# Altium schematic symbol library CHXXX.schlib: 332 symbols (part 1 of 5)
Pins are listed as number, name and electrical type; pins without a type are passive.

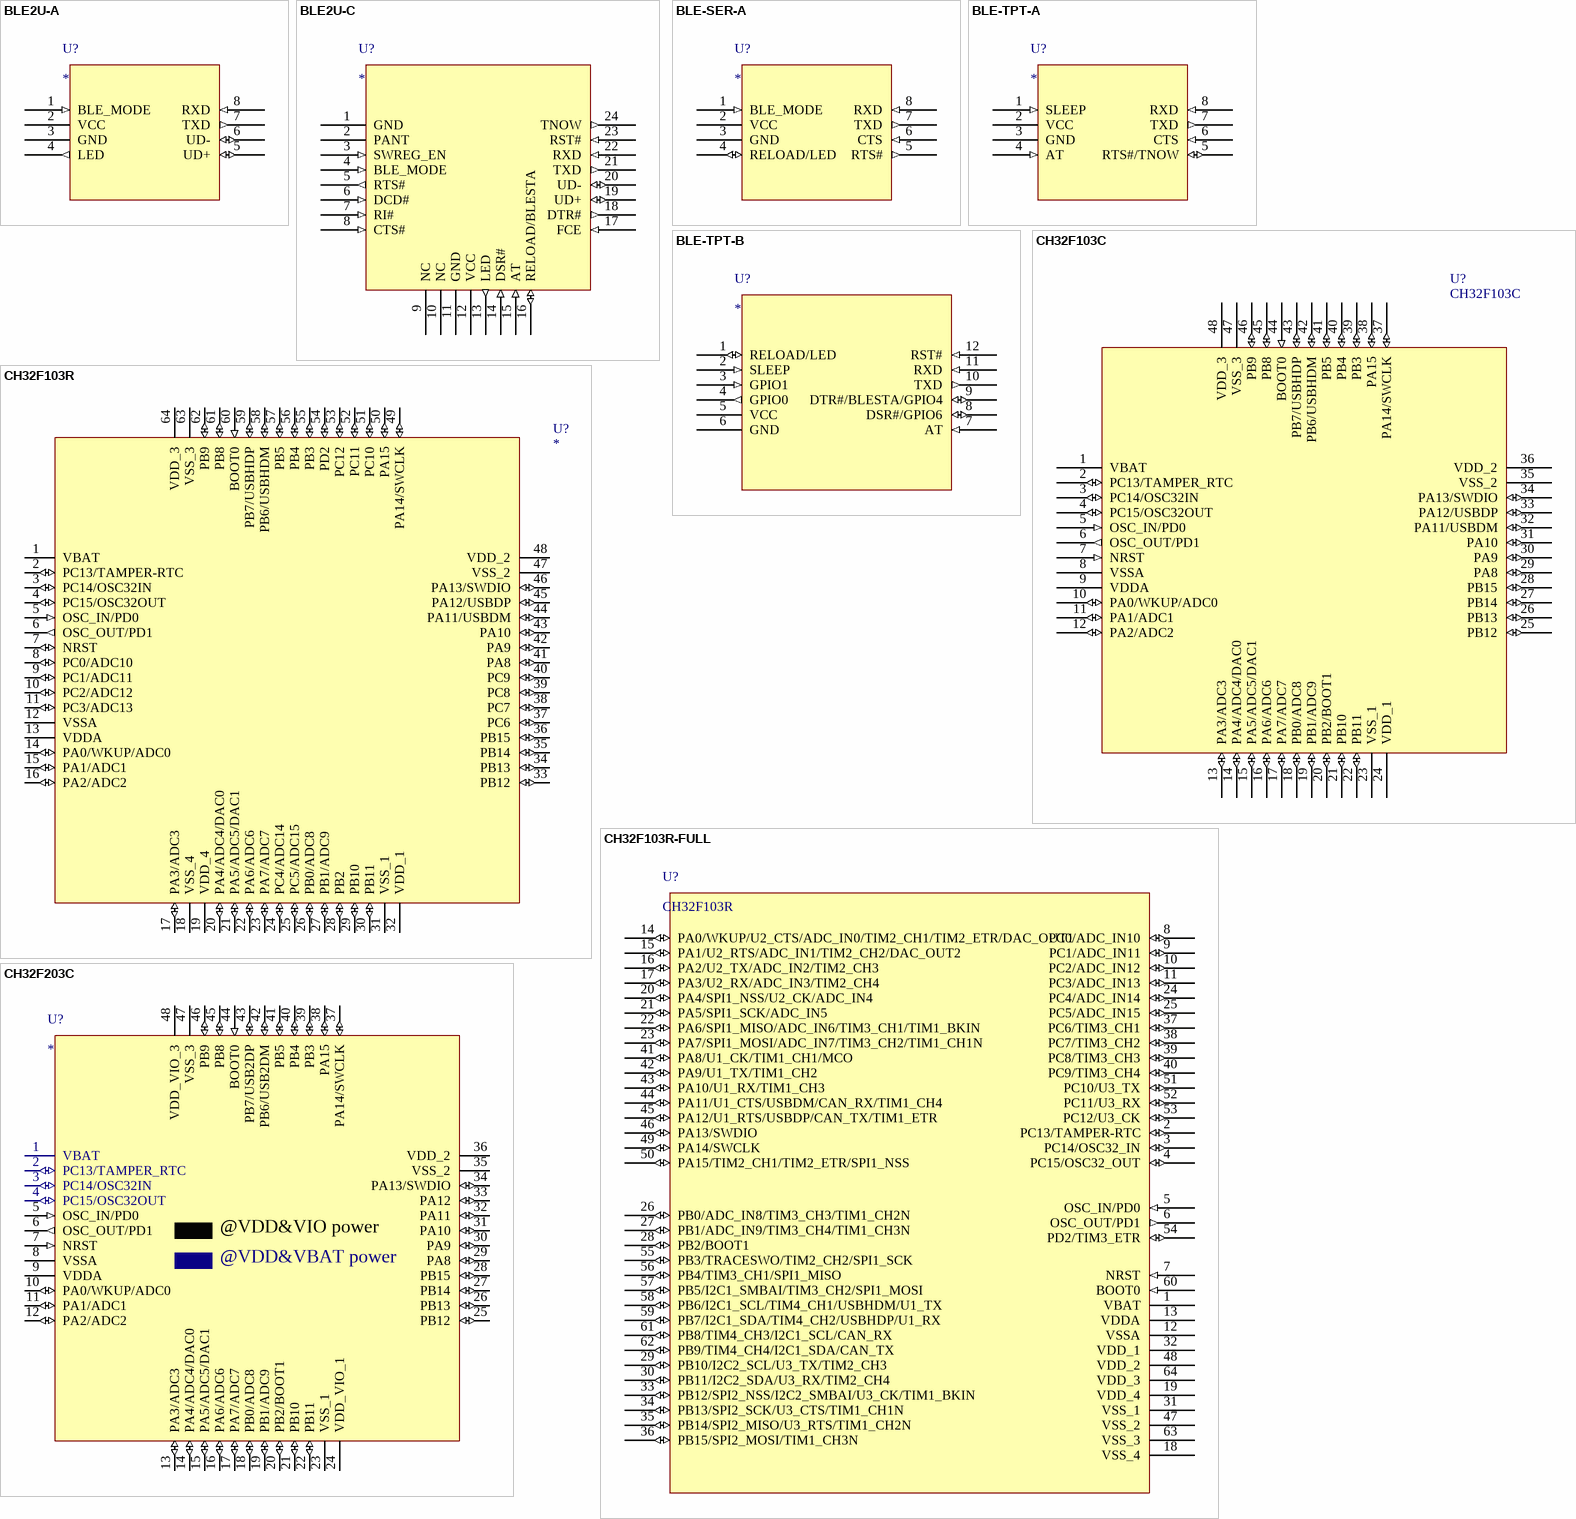
[diagram p0: symbols BLE2U-A to CH32F203C]

## BLE2U-A
designator U?
BLE/UART/USB transparent transmission module, 8 pins
footprint BLEMOD-R1-1v1-8PIN
pins: 1 BLE_MODE (in), 2 VCC (power), 3 GND (power), 4 LED (out), 5 UD+ (io), 6 UD- (io), 7 TXD (out), 8 RXD (in)

## BLE2U-C
designator U?
BLE/UART/USB transparent transmission module, 24 pins
footprint BLEMOD-R2-1v0-24PIN
pins: 1 GND (power), 2 PANT, 3 SWREG_EN (in), 4 BLE_MODE (in), 5 RTS# (out), 6 DCD# (in), 7 RI# (in), 8 CTS# (in), 9 NC, 10 NC, 11 GND (power), 12 VCC (power), 13 LED (out), 14 DSR# (in), 15 AT (in), 16 RELOAD/BLESTA   (io), 17 FCE (in), 18 DTR# (out), 19 UD+ (io), 20 UD- (io), 21 TXD (out), 22 RXD (in), 23 RST# (in), 24 TNOW (out)

## BLE-SER-A
designator U?
BLE to UART / TTL Serial module, 8 pins
footprint BLEMOD-R1-1v1-8PIN
pins: 1 BLE_MODE (in), 2 VCC (power), 3 GND (power), 4 RELOAD/LED (io), 5 RTS# (out), 6 CTS (in), 7 TXD (out), 8 RXD (in)

## BLE-TPT-A
designator U?
BLE/UART transparent transmission module, 8 pins
footprint BLEMOD-R1-1v1-8PIN
pins: 1 SLEEP (in), 2 VCC (power), 3 GND (power), 4 AT (in), 5 RTS#/TNOW (io), 6 CTS (in), 7 TXD (out), 8 RXD (in)

## BLE-TPT-B
designator U?
BLE/UART transparent transmission module, 12 pins
footprint BLEMOD-R0-1v0-12PIN
pins: 1 RELOAD/LED (io), 2 SLEEP (in), 3 GPIO1 (in), 4 GPIO0 (out), 5 VCC (power), 6 GND (power), 7 AT (in), 8 DSR#/GPIO6 (io), 9 DTR#/BLESTA/GPIO4 (io), 10 TXD (out), 11 RXD (in), 12 RST# (in)

## CH32F103C
designator U?
ARM M3 MCU with USB device & USB host & ADC & 12bit DAC & Touch Key & CAN
footprint LQFP48
footprint QFN48_7X7 (Footprint not found)
pins: 1 VBAT (power), 2 PC13/TAMPER_RTC (io), 3 PC14/OSC32IN (io), 4 PC15/OSC32OUT (io), 5 OSC_IN/PD0 (in), 6 OSC_OUT/PD1 (out), 7 NRST (in), 8 VSSA (power), 9 VDDA (power), 10 PA0/WKUP/ADC0 (io), 11 PA1/ADC1 (io), 12 PA2/ADC2 (io), 13 PA3/ADC3 (io), 14 PA4/ADC4/DAC0 (io), 15 PA5/ADC5/DAC1 (io), 16 PA6/ADC6 (io), 17 PA7/ADC7 (io), 18 PB0/ADC8 (io), 19 PB1/ADC9 (io), 20 PB2/BOOT1 (io), 21 PB10 (io), 22 PB11 (io), 23 VSS_1 (power), 24 VDD_1 (power), 25 PB12 (io), 26 PB13 (io), 27 PB14 (io), 28 PB15 (io), 29 PA8 (io), 30 PA9 (io), 31 PA10 (io), 32 PA11/USBDM (io), 33 PA12/USBDP (io), 34 PA13/SWDIO (io), 35 VSS_2 (power), 36 VDD_2 (power), 37 PA14/SWCLK (io), 38 PA15 (io), 39 PB3 (io), 40 PB4 (io), 41 PB5 (io), 42 PB6/USBHDM (io), 43 PB7/USBHDP (io), 44 BOOT0 (in), 45 PB8 (io), 46 PB9 (io), 47 VSS_3 (power), 48 VDD_3 (power)
2 alternate drawings of the same symbol

## CH32F103R
designator U?
ARM M3 MCU with USB device & USB host & ADC & 12bit DAC & Touch Key & CAN
footprint LQFP64M_10X10
pins: 1 VBAT (power), 2 PC13/TAMPER-RTC (io), 3 PC14/OSC32IN (io), 4 PC15/OSC32OUT (io), 5 OSC_IN/PD0 (in), 6 OSC_OUT/PD1 (out), 7 NRST (io), 8 PC0/ADC10 (io), 9 PC1/ADC11 (io), 10 PC2/ADC12 (io), 11 PC3/ADC13 (io), 12 VSSA (power), 13 VDDA (power), 14 PA0/WKUP/ADC0 (io), 15 PA1/ADC1 (io), 16 PA2/ADC2 (io), 17 PA3/ADC3 (io), 18 VSS_4 (power), 19 VDD_4 (power), 20 PA4/ADC4/DAC0 (io), 21 PA5/ADC5/DAC1 (io), 22 PA6/ADC6 (io), 23 PA7/ADC7 (io), 24 PC4/ADC14 (io), 25 PC5/ADC15 (io), 26 PB0/ADC8 (io), 27 PB1/ADC9 (io), 28 PB2 (io), 29 PB10 (io), 30 PB11 (io), 31 VSS_1 (power), 32 VDD_1 (power), 33 PB12 (io), 34 PB13 (io), 35 PB14 (io), 36 PB15 (io), 37 PC6 (io), 38 PC7 (io), 39 PC8 (io), 40 PC9 (io), 41 PA8 (io), 42 PA9 (io), 43 PA10 (io), 44 PA11/USBDM (io), 45 PA12/USBDP (io), 46 PA13/SWDIO (io), 47 VSS_2 (power), 48 VDD_2 (power), 49 PA14/SWCLK (io), 50 PA15 (io), 51 PC10 (io), 52 PC11 (io), 53 PC12 (io), 54 PD2 (io), 55 PB3 (io), 56 PB4 (io), 57 PB5 (io), 58 PB6/USBHDM (io), 59 PB7/USBHDP (io), 60 BOOT0 (in), 61 PB8 (io), 62 PB9 (io), 63 VSS_3 (power), 64 VDD_3 (power)

## CH32F103R-FULL
designator U?, comment CH32F103R
ARM M3 MCU with USB device & USB host & ADC & 12bit DAC & Touch Key & CAN
footprint LQFP64M_10X10 (Footprint not found)
pins: 1 VBAT (power), 2 PC13/TAMPER-RTC (io), 3 PC14/OSC32_IN (io), 4 PC15/OSC32_OUT (io), 5 OSC_IN/PD0 (in), 6 OSC_OUT/PD1 (out), 7 NRST (in), 8 PC0/ADC_IN10 (io), 9 PC1/ADC_IN11 (io), 10 PC2/ADC_IN12 (io), 11 PC3/ADC_IN13 (io), 12 VSSA (power), 13 VDDA (power), 14 PA0/WKUP/U2_CTS/ADC_IN0/TIM2_CH1/TIM2_ETR/DAC_OUT1 (io), 15 PA1/U2_RTS/ADC_IN1/TIM2_CH2/DAC_OUT2 (io), 16 PA2/U2_TX/ADC_IN2/TIM2_CH3 (io), 17 PA3/U2_RX/ADC_IN3/TIM2_CH4 (io), 18 VSS_4 (power), 19 VDD_4 (power), 20 PA4/SPI1_NSS/U2_CK/ADC_IN4 (io), 21 PA5/SPI1_SCK/ADC_IN5 (io), 22 PA6/SPI1_MISO/ADC_IN6/TIM3_CH1/TIM1_BKIN (io), 23 PA7/SPI1_MOSI/ADC_IN7/TIM3_CH2/TIM1_CH1N (io), 24 PC4/ADC_IN14 (io), 25 PC5/ADC_IN15 (io), 26 PB0/ADC_IN8/TIM3_CH3/TIM1_CH2N (io), 27 PB1/ADC_IN9/TIM3_CH4/TIM1_CH3N (io), 28 PB2/BOOT1 (io), 29 PB10/I2C2_SCL/U3_TX/TIM2_CH3 (io), 30 PB11/I2C2_SDA/U3_RX/TIM2_CH4 (io), 31 VSS_1 (power), 32 VDD_1 (power), 33 PB12/SPI2_NSS/I2C2_SMBAI/U3_CK/TIM1_BKIN (io), 34 PB13/SPI2_SCK/U3_CTS/TIM1_CH1N  (io), 35 PB14/SPI2_MISO/U3_RTS/TIM1_CH2N (io), 36 PB15/SPI2_MOSI/TIM1_CH3N (io), 37 PC6/TIM3_CH1 (io), 38 PC7/TIM3_CH2 (io), 39 PC8/TIM3_CH3 (io), 40 PC9/TIM3_CH4 (io), 41 PA8/U1_CK/TIM1_CH1/MCO (io), 42 PA9/U1_TX/TIM1_CH2 (io), 43 PA10/U1_RX/TIM1_CH3 (io), 44 PA11/U1_CTS/USBDM/CAN_RX/TIM1_CH4 (io), 45 PA12/U1_RTS/USBDP/CAN_TX/TIM1_ETR (io), 46 PA13/SWDIO (io), 47 VSS_2 (power), 48 VDD_2 (power), 49 PA14/SWCLK (io), 50 PA15/TIM2_CH1/TIM2_ETR/SPI1_NSS (io), 51 PC10/U3_TX (io), 52 PC11/U3_RX (io), 53 PC12/U3_CK (io), 54 PD2/TIM3_ETR (io), 55 PB3/TRACESWO/TIM2_CH2/SPI1_SCK (io), 56 PB4/TIM3_CH1/SPI1_MISO (io), 57 PB5/I2C1_SMBAI/TIM3_CH2/SPI1_MOSI (io), 58 PB6/I2C1_SCL/TIM4_CH1/USBHDM/U1_TX (io), 59 PB7/I2C1_SDA/TIM4_CH2/USBHDP/U1_RX (io), 60 BOOT0 (in), 61 PB8/TIM4_CH3/I2C1_SCL/CAN_RX (io), 62 PB9/TIM4_CH4/I2C1_SDA/CAN_TX (io), 63 VSS_3 (power), 64 VDD_3 (power)

## CH32F203C
designator U?
ARM M3 MCU, 144MHz, 8*UART, 10*Timer, 4*OPA
footprint LQFP48
pins: 1 VBAT (power), 2 PC13/TAMPER_RTC (io), 3 PC14/OSC32IN (io), 4 PC15/OSC32OUT (io), 5 OSC_IN/PD0 (in), 6 OSC_OUT/PD1 (out), 7 NRST (in), 8 VSSA (power), 9 VDDA (power), 10 PA0/WKUP/ADC0 (io), 11 PA1/ADC1 (io), 12 PA2/ADC2 (io), 13 PA3/ADC3 (io), 14 PA4/ADC4/DAC0 (io), 15 PA5/ADC5/DAC1 (io), 16 PA6/ADC6 (io), 17 PA7/ADC7 (io), 18 PB0/ADC8 (io), 19 PB1/ADC9 (io), 20 PB2/BOOT1 (io), 21 PB10 (io), 22 PB11 (io), 23 VSS_1 (power), 24 VDD_VIO_1 (power), 25 PB12 (io), 26 PB13 (io), 27 PB14 (io), 28 PB15 (io), 29 PA8 (io), 30 PA9 (io), 31 PA10 (io), 32 PA11 (io), 33 PA12 (io), 34 PA13/SWDIO (io), 35 VSS_2 (power), 36 VDD_2 (power), 37 PA14/SWCLK (io), 38 PA15 (io), 39 PB3 (io), 40 PB4 (io), 41 PB5 (io), 42 PB6/USB2DM (io), 43 PB7/USB2DP (io), 44 BOOT0 (in), 45 PB8 (io), 46 PB9 (io), 47 VSS_3 (power), 48 VDD_VIO_3 (power)
text: @VDD&VIO power; @VDD&VBAT power

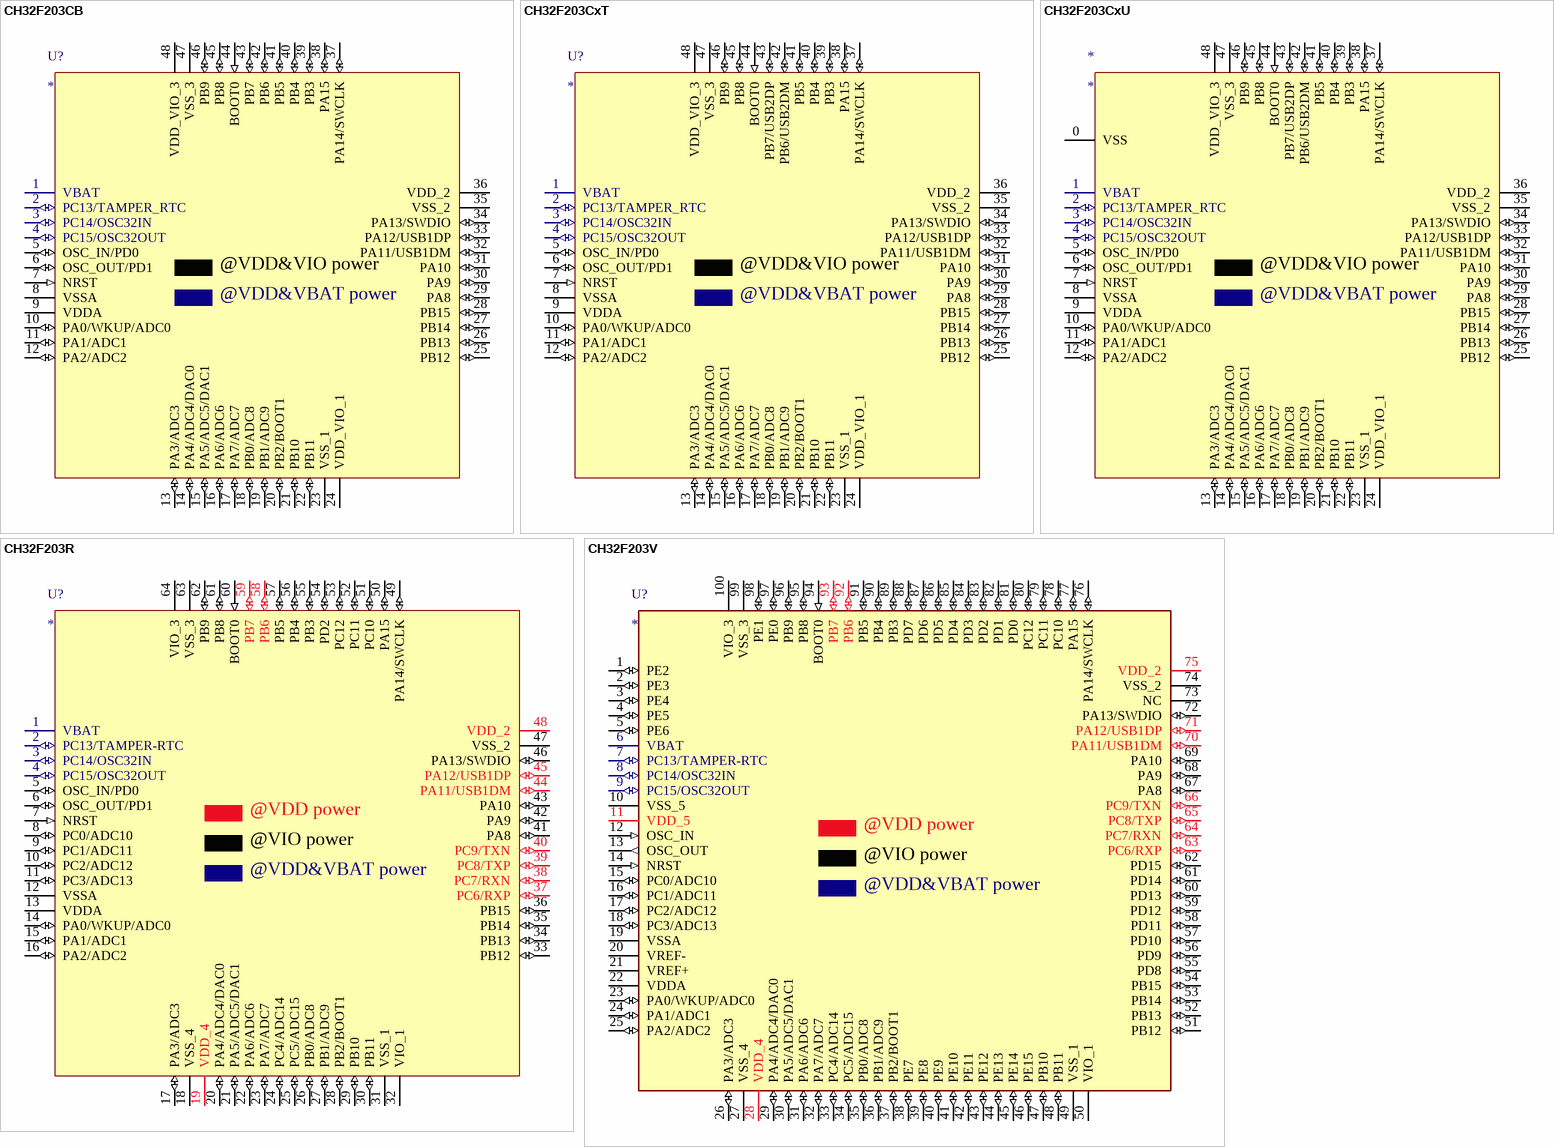
[diagram p1: symbols CH32F203CB to CH32F203V]

## CH32F203CB
designator U?
ARM M3 MCU, 144MHz, 8*UART, 10*Timer, 4*OPA
footprint LQFP48
pins: 1 VBAT (power), 2 PC13/TAMPER_RTC (io), 3 PC14/OSC32IN (io), 4 PC15/OSC32OUT (io), 5 OSC_IN/PD0 (io), 6 OSC_OUT/PD1 (io), 7 NRST (in), 8 VSSA (power), 9 VDDA (power), 10 PA0/WKUP/ADC0 (io), 11 PA1/ADC1 (io), 12 PA2/ADC2 (io), 13 PA3/ADC3 (io), 14 PA4/ADC4/DAC0 (io), 15 PA5/ADC5/DAC1 (io), 16 PA6/ADC6 (io), 17 PA7/ADC7 (io), 18 PB0/ADC8 (io), 19 PB1/ADC9 (io), 20 PB2/BOOT1 (io), 21 PB10 (io), 22 PB11 (io), 23 VSS_1 (power), 24 VDD_VIO_1 (power), 25 PB12 (io), 26 PB13 (io), 27 PB14 (io), 28 PB15 (io), 29 PA8 (io), 30 PA9 (io), 31 PA10 (io), 32 PA11/USB1DM (io), 33 PA12/USB1DP (io), 34 PA13/SWDIO (io), 35 VSS_2 (power), 36 VDD_2 (power), 37 PA14/SWCLK (io), 38 PA15 (io), 39 PB3 (io), 40 PB4 (io), 41 PB5 (io), 42 PB6 (io), 43 PB7 (io), 44 BOOT0 (in), 45 PB8 (io), 46 PB9 (io), 47 VSS_3 (power), 48 VDD_VIO_3 (power)
text: @VDD&VIO power; @VDD&VBAT power

## CH32F203CxT
designator U?
ARM M3 MCU, 144MHz, 2*USB FS, CAN
footprint LQFP48
pins: 1 VBAT (power), 2 PC13/TAMPER_RTC (io), 3 PC14/OSC32IN (io), 4 PC15/OSC32OUT (io), 5 OSC_IN/PD0 (io), 6 OSC_OUT/PD1 (io), 7 NRST (in), 8 VSSA (power), 9 VDDA (power), 10 PA0/WKUP/ADC0 (io), 11 PA1/ADC1 (io), 12 PA2/ADC2 (io), 13 PA3/ADC3 (io), 14 PA4/ADC4/DAC0 (io), 15 PA5/ADC5/DAC1 (io), 16 PA6/ADC6 (io), 17 PA7/ADC7 (io), 18 PB0/ADC8 (io), 19 PB1/ADC9 (io), 20 PB2/BOOT1 (io), 21 PB10 (io), 22 PB11 (io), 23 VSS_1 (power), 24 VDD_VIO_1 (power), 25 PB12 (io), 26 PB13 (io), 27 PB14 (io), 28 PB15 (io), 29 PA8 (io), 30 PA9 (io), 31 PA10 (io), 32 PA11/USB1DM (io), 33 PA12/USB1DP (io), 34 PA13/SWDIO (io), 35 VSS_2 (power), 36 VDD_2 (power), 37 PA14/SWCLK (io), 38 PA15 (io), 39 PB3 (io), 40 PB4 (io), 41 PB5 (io), 42 PB6/USB2DM (io), 43 PB7/USB2DP (io), 44 BOOT0 (in), 45 PB8 (io), 46 PB9 (io), 47 VSS_3 (power), 48 VDD_VIO_3 (power)
text: @VDD&VIO power; @VDD&VBAT power

## CH32F203CxU
designator *
ARM M3 MCU, 144MHz, 2*USB FS, CAN
footprint QFN48_7X7 (Footprint not found)
pins: 0 VSS (power), 1 VBAT (power), 2 PC13/TAMPER_RTC (io), 3 PC14/OSC32IN (io), 4 PC15/OSC32OUT (io), 5 OSC_IN/PD0 (io), 6 OSC_OUT/PD1 (io), 7 NRST (in), 8 VSSA (power), 9 VDDA (power), 10 PA0/WKUP/ADC0 (io), 11 PA1/ADC1 (io), 12 PA2/ADC2 (io), 13 PA3/ADC3 (io), 14 PA4/ADC4/DAC0 (io), 15 PA5/ADC5/DAC1 (io), 16 PA6/ADC6 (io), 17 PA7/ADC7 (io), 18 PB0/ADC8 (io), 19 PB1/ADC9 (io), 20 PB2/BOOT1 (io), 21 PB10 (io), 22 PB11 (io), 23 VSS_1 (power), 24 VDD_VIO_1 (power), 25 PB12 (io), 26 PB13 (io), 27 PB14 (io), 28 PB15 (io), 29 PA8 (io), 30 PA9 (io), 31 PA10 (io), 32 PA11/USB1DM (io), 33 PA12/USB1DP (io), 34 PA13/SWDIO (io), 35 VSS_2 (power), 36 VDD_2 (power), 37 PA14/SWCLK (io), 38 PA15 (io), 39 PB3 (io), 40 PB4 (io), 41 PB5 (io), 42 PB6/USB2DM (io), 43 PB7/USB2DP (io), 44 BOOT0 (in), 45 PB8 (io), 46 PB9 (io), 47 VSS_3 (power), 48 VDD_VIO_3 (power)
text: @VDD&VIO power; @VDD&VBAT power

## CH32F203R
designator U?
ARM M3 MCU, 144MHz, 8*UART, 10*Timer, 4*OPA
footprint LQFP64M_10x10
pins: 1 VBAT (power), 2 PC13/TAMPER-RTC (io), 3 PC14/OSC32IN (io), 4 PC15/OSC32OUT (io), 5 OSC_IN/PD0 (io), 6 OSC_OUT/PD1 (io), 7 NRST (in), 8 PC0/ADC10 (io), 9 PC1/ADC11 (io), 10 PC2/ADC12 (io), 11 PC3/ADC13 (io), 12 VSSA (power), 13 VDDA (power), 14 PA0/WKUP/ADC0 (io), 15 PA1/ADC1 (io), 16 PA2/ADC2 (io), 17 PA3/ADC3 (io), 18 VSS_4 (power), 19 VDD_4 (power), 20 PA4/ADC4/DAC0 (io), 21 PA5/ADC5/DAC1 (io), 22 PA6/ADC6 (io), 23 PA7/ADC7 (io), 24 PC4/ADC14 (io), 25 PC5/ADC15 (io), 26 PB0/ADC8 (io), 27 PB1/ADC9 (io), 28 PB2/BOOT1 (io), 29 PB10 (io), 30 PB11 (io), 31 VSS_1 (power), 32 VIO_1 (power), 33 PB12 (io), 34 PB13 (io), 35 PB14 (io), 36 PB15 (io), 37 PC6/RXP (io), 38 PC7/RXN (io), 39 PC8/TXP (io), 40 PC9/TXN (io), 41 PA8 (io), 42 PA9 (io), 43 PA10 (io), 44 PA11/USB1DM (io), 45 PA12/USB1DP (io), 46 PA13/SWDIO (io), 47 VSS_2 (power), 48 VDD_2 (power), 49 PA14/SWCLK (io), 50 PA15 (io), 51 PC10 (io), 52 PC11 (io), 53 PC12 (io), 54 PD2 (io), 55 PB3 (io), 56 PB4 (io), 57 PB5 (io), 58 PB6 (io), 59 PB7 (io), 60 BOOT0 (in), 61 PB8 (io), 62 PB9 (io), 63 VSS_3 (power), 64 VIO_3 (power)
text: @VDD power; @VIO power; @VDD&VBAT power

## CH32F203V
designator U?
ARM M3 MCU, 144MHz, 8*UART, 10*Timer, 4*OPA
footprint LQFP100
pins: 1 PE2 (io), 2 PE3 (io), 3 PE4 (io), 4 PE5 (io), 5 PE6 (io), 6 VBAT (power), 7 PC13/TAMPER-RTC (io), 8 PC14/OSC32IN (io), 9 PC15/OSC32OUT (io), 10 VSS_5 (power), 11 VDD_5 (power), 12 OSC_IN (in), 13 OSC_OUT (out), 14 NRST (in), 15 PC0/ADC10 (io), 16 PC1/ADC11 (io), 17 PC2/ADC12 (io), 18 PC3/ADC13 (io), 19 VSSA (power), 20 VREF- (power), 21 VREF+ (power), 22 VDDA (power), 23 PA0/WKUP/ADC0 (io), 24 PA1/ADC1 (io), 25 PA2/ADC2 (io), 26 PA3/ADC3 (io), 27 VSS_4 (power), 28 VDD_4 (power), 29 PA4/ADC4/DAC0 (io), 30 PA5/ADC5/DAC1 (io), 31 PA6/ADC6 (io), 32 PA7/ADC7 (io), 33 PC4/ADC14 (io), 34 PC5/ADC15 (io), 35 PB0/ADC8 (io), 36 PB1/ADC9 (io), 37 PB2/BOOT1 (io), 38 PE7 (io), 39 PE8 (io), 40 PE9 (io), 41 PE10 (io), 42 PE11 (io), 43 PE12 (io), 44 PE13 (io), 45 PE14 (io), 46 PE15 (io), 47 PB10 (io), 48 PB11 (io), 49 VSS_1 (power), 50 VIO_1 (power), 51 PB12 (io), 52 PB13 (io), 53 PB14 (io), 54 PB15 (io), 55 PD8 (io), 56 PD9 (io), 57 PD10 (io), 58 PD11 (io), 59 PD12 (io), 60 PD13 (io), 61 PD14 (io), 62 PD15 (io), 63 PC6/RXP (io), 64 PC7/RXN (io), 65 PC8/TXP (io), 66 PC9/TXN (io), 67 PA8 (io), 68 PA9 (io), 69 PA10 (io), 70 PA11/USB1DM (io), 71 PA12/USB1DP (io), 72 PA13/SWDIO (io), 73 NC (hiz), 74 VSS_2 (power), 75 VDD_2 (power), 76 PA14/SWCLK (io), 77 PA15 (io), 78 PC10 (io), 79 PC11 (io), 80 PC12 (io), 81 PD0 (io), 82 PD1 (io), 83 PD2 (io), 84 PD3 (io), 85 PD4 (io), 86 PD5 (io), 87 PD6 (io), 88 PD7 (io), 89 PB3 (io), 90 PB4 (io), 91 PB5 (io), 92 PB6 (io), 93 PB7 (io), 94 BOOT0 (in), 95 PB8 (io), 96 PB9 (io), 97 PE0 (io), 98 PE1 (io), 99 VSS_3 (power), 100 VIO_3 (power)
text: @VDD power; @VIO power; @VDD&VBAT power

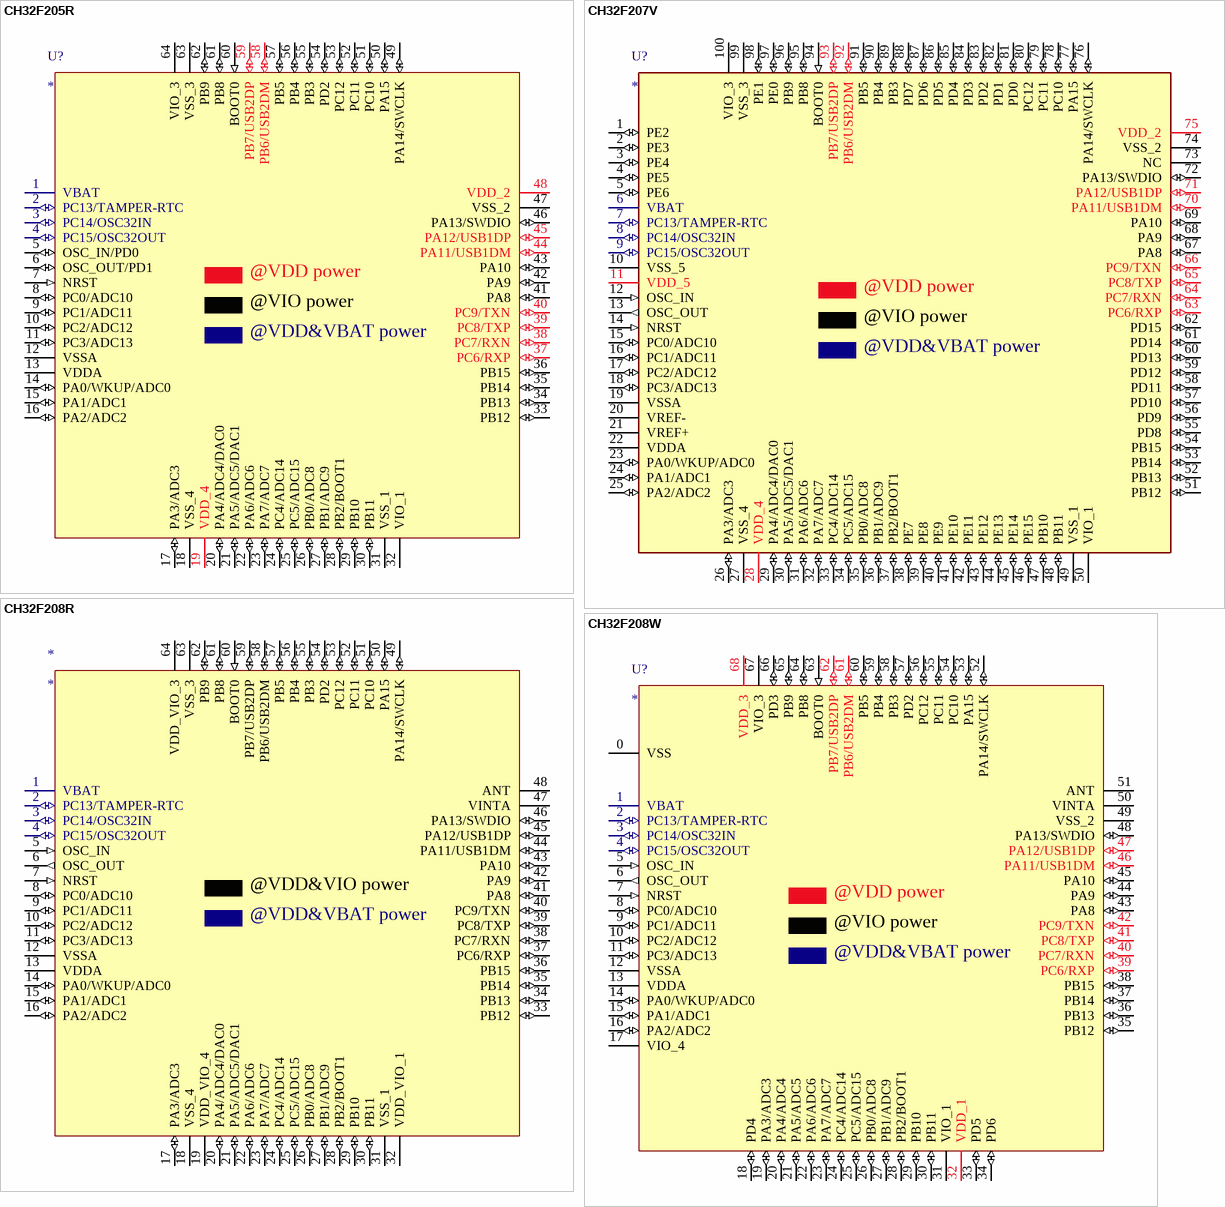
[diagram p2: symbols CH32F205R to CH32F208W]

## CH32F205R
designator U?
ARM M3 MCU, 144MHz, USB_480M, USB OTG, 2*CAN, 4*OPA
footprint LQFP64M_10x10
pins: 1 VBAT (power), 2 PC13/TAMPER-RTC (io), 3 PC14/OSC32IN (io), 4 PC15/OSC32OUT (io), 5 OSC_IN/PD0 (io), 6 OSC_OUT/PD1 (io), 7 NRST (in), 8 PC0/ADC10 (io), 9 PC1/ADC11 (io), 10 PC2/ADC12 (io), 11 PC3/ADC13 (io), 12 VSSA (power), 13 VDDA (power), 14 PA0/WKUP/ADC0 (io), 15 PA1/ADC1 (io), 16 PA2/ADC2 (io), 17 PA3/ADC3 (io), 18 VSS_4 (power), 19 VDD_4 (power), 20 PA4/ADC4/DAC0 (io), 21 PA5/ADC5/DAC1 (io), 22 PA6/ADC6 (io), 23 PA7/ADC7 (io), 24 PC4/ADC14 (io), 25 PC5/ADC15 (io), 26 PB0/ADC8 (io), 27 PB1/ADC9 (io), 28 PB2/BOOT1 (io), 29 PB10 (io), 30 PB11 (io), 31 VSS_1 (power), 32 VIO_1 (power), 33 PB12 (io), 34 PB13 (io), 35 PB14 (io), 36 PB15 (io), 37 PC6/RXP (io), 38 PC7/RXN (io), 39 PC8/TXP (io), 40 PC9/TXN (io), 41 PA8 (io), 42 PA9 (io), 43 PA10 (io), 44 PA11/USB1DM (io), 45 PA12/USB1DP (io), 46 PA13/SWDIO (io), 47 VSS_2 (power), 48 VDD_2 (power), 49 PA14/SWCLK (io), 50 PA15 (io), 51 PC10 (io), 52 PC11 (io), 53 PC12 (io), 54 PD2 (io), 55 PB3 (io), 56 PB4 (io), 57 PB5 (io), 58 PB6/USB2DM (io), 59 PB7/USB2DP (io), 60 BOOT0 (in), 61 PB8 (io), 62 PB9 (io), 63 VSS_3 (power), 64 VIO_3 (power)
text: @VDD power; @VIO power; @VDD&VBAT power

## CH32F207V
designator U?
ARM M3 MCU, 144MHz, USB_480M, USB OTG, 1000M Ethernet MAC, 2*CAN
footprint LQFP100
pins: 1 PE2 (io), 2 PE3 (io), 3 PE4 (io), 4 PE5 (io), 5 PE6 (io), 6 VBAT (power), 7 PC13/TAMPER-RTC (io), 8 PC14/OSC32IN (io), 9 PC15/OSC32OUT (io), 10 VSS_5 (power), 11 VDD_5 (power), 12 OSC_IN (in), 13 OSC_OUT (out), 14 NRST (in), 15 PC0/ADC10 (io), 16 PC1/ADC11 (io), 17 PC2/ADC12 (io), 18 PC3/ADC13 (io), 19 VSSA (power), 20 VREF- (power), 21 VREF+ (power), 22 VDDA (power), 23 PA0/WKUP/ADC0 (io), 24 PA1/ADC1 (io), 25 PA2/ADC2 (io), 26 PA3/ADC3 (io), 27 VSS_4 (power), 28 VDD_4 (power), 29 PA4/ADC4/DAC0 (io), 30 PA5/ADC5/DAC1 (io), 31 PA6/ADC6 (io), 32 PA7/ADC7 (io), 33 PC4/ADC14 (io), 34 PC5/ADC15 (io), 35 PB0/ADC8 (io), 36 PB1/ADC9 (io), 37 PB2/BOOT1 (io), 38 PE7 (io), 39 PE8 (io), 40 PE9 (io), 41 PE10 (io), 42 PE11 (io), 43 PE12 (io), 44 PE13 (io), 45 PE14 (io), 46 PE15 (io), 47 PB10 (io), 48 PB11 (io), 49 VSS_1 (power), 50 VIO_1 (power), 51 PB12 (io), 52 PB13 (io), 53 PB14 (io), 54 PB15 (io), 55 PD8 (io), 56 PD9 (io), 57 PD10 (io), 58 PD11 (io), 59 PD12 (io), 60 PD13 (io), 61 PD14 (io), 62 PD15 (io), 63 PC6/RXP (io), 64 PC7/RXN (io), 65 PC8/TXP (io), 66 PC9/TXN (io), 67 PA8 (io), 68 PA9 (io), 69 PA10 (io), 70 PA11/USB1DM (io), 71 PA12/USB1DP (io), 72 PA13/SWDIO (io), 73 NC (hiz), 74 VSS_2 (power), 75 VDD_2 (power), 76 PA14/SWCLK (io), 77 PA15 (io), 78 PC10 (io), 79 PC11 (io), 80 PC12 (io), 81 PD0 (io), 82 PD1 (io), 83 PD2 (io), 84 PD3 (io), 85 PD4 (io), 86 PD5 (io), 87 PD6 (io), 88 PD7 (io), 89 PB3 (io), 90 PB4 (io), 91 PB5 (io), 92 PB6/USB2DM (io), 93 PB7/USB2DP (io), 94 BOOT0 (in), 95 PB8 (io), 96 PB9 (io), 97 PE0 (io), 98 PE1 (io), 99 VSS_3 (power), 100 VIO_3 (power)
text: @VDD power; @VIO power; @VDD&VBAT power

## CH32F208R
designator *
ARM M3 BLE5.1 MCU, 10M Ethernet, 2*USB, CAN
footprint LQFP64M_10x10
pins: 1 VBAT (power), 2 PC13/TAMPER-RTC (io), 3 PC14/OSC32IN (io), 4 PC15/OSC32OUT (io), 5 OSC_IN (in), 6 OSC_OUT (out), 7 NRST (in), 8 PC0/ADC10 (io), 9 PC1/ADC11 (io), 10 PC2/ADC12 (io), 11 PC3/ADC13 (io), 12 VSSA (power), 13 VDDA (power), 14 PA0/WKUP/ADC0 (io), 15 PA1/ADC1 (io), 16 PA2/ADC2 (io), 17 PA3/ADC3 (io), 18 VSS_4 (power), 19 VDD_VIO_4 (power), 20 PA4/ADC4/DAC0 (io), 21 PA5/ADC5/DAC1 (io), 22 PA6/ADC6 (io), 23 PA7/ADC7 (io), 24 PC4/ADC14 (io), 25 PC5/ADC15 (io), 26 PB0/ADC8 (io), 27 PB1/ADC9 (io), 28 PB2/BOOT1 (io), 29 PB10 (io), 30 PB11 (io), 31 VSS_1 (power), 32 VDD_VIO_1 (power), 33 PB12 (io), 34 PB13 (io), 35 PB14 (io), 36 PB15 (io), 37 PC6/RXP (io), 38 PC7/RXN (io), 39 PC8/TXP (io), 40 PC9/TXN (io), 41 PA8 (io), 42 PA9 (io), 43 PA10 (io), 44 PA11/USB1DM (io), 45 PA12/USB1DP (io), 46 PA13/SWDIO (io), 47 VINTA (power), 48 ANT (power), 49 PA14/SWCLK (io), 50 PA15 (io), 51 PC10 (io), 52 PC11 (io), 53 PC12 (io), 54 PD2 (io), 55 PB3 (io), 56 PB4 (io), 57 PB5 (io), 58 PB6/USB2DM (io), 59 PB7/USB2DP (io), 60 BOOT0 (in), 61 PB8 (io), 62 PB9 (io), 63 VSS_3 (power), 64 VDD_VIO_3 (power)
text: @VDD&VIO power; @VDD&VBAT power

## CH32F208W
designator U?
ARM M3 BLE5.1 MCU, 10M Ethernet, 2*USB, CAN
footprint QFN68_8x8
pins: 0 VSS (power), 1 VBAT (power), 2 PC13/TAMPER-RTC (io), 3 PC14/OSC32IN (io), 4 PC15/OSC32OUT (io), 5 OSC_IN (in), 6 OSC_OUT (out), 7 NRST (in), 8 PC0/ADC10 (io), 9 PC1/ADC11 (io), 10 PC2/ADC12 (io), 11 PC3/ADC13 (io), 12 VSSA (power), 13 VDDA (power), 14 PA0/WKUP/ADC0 (io), 15 PA1/ADC1 (io), 16 PA2/ADC2 (io), 17 VIO_4 (power), 18 PD4 (io), 19 PA3/ADC3 (io), 20 PA4/ADC4 (io), 21 PA5/ADC5 (io), 22 PA6/ADC6 (io), 23 PA7/ADC7 (io), 24 PC4/ADC14 (io), 25 PC5/ADC15 (io), 26 PB0/ADC8 (io), 27 PB1/ADC9 (io), 28 PB2/BOOT1 (io), 29 PB10 (io), 30 PB11 (io), 31 VIO_1 (power), 32 VDD_1 (power), 33 PD5 (io), 34 PD6 (io), 35 PB12 (io), 36 PB13 (io), 37 PB14 (io), 38 PB15 (io), 39 PC6/RXP (io), 40 PC7/RXN (io), 41 PC8/TXP (io), 42 PC9/TXN (io), 43 PA8 (io), 44 PA9 (io), 45 PA10 (io), 46 PA11/USB1DM (io), 47 PA12/USB1DP (io), 48 PA13/SWDIO (io), 49 VSS_2 (power), 50 VINTA (power), 51 ANT (power), 52 PA14/SWCLK (io), 53 PA15 (io), 54 PC10 (io), 55 PC11 (io), 56 PC12 (io), 57 PD2 (io), 58 PB3 (io), 59 PB4 (io), 60 PB5 (io), 61 PB6/USB2DM (io), 62 PB7/USB2DP (io), 63 BOOT0 (in), 64 PB8 (io), 65 PB9 (io), 66 PD3 (io), 67 VIO_3 (power), 68 VDD_3 (power)
text: @VDD power; @VIO power; @VDD&VBAT power

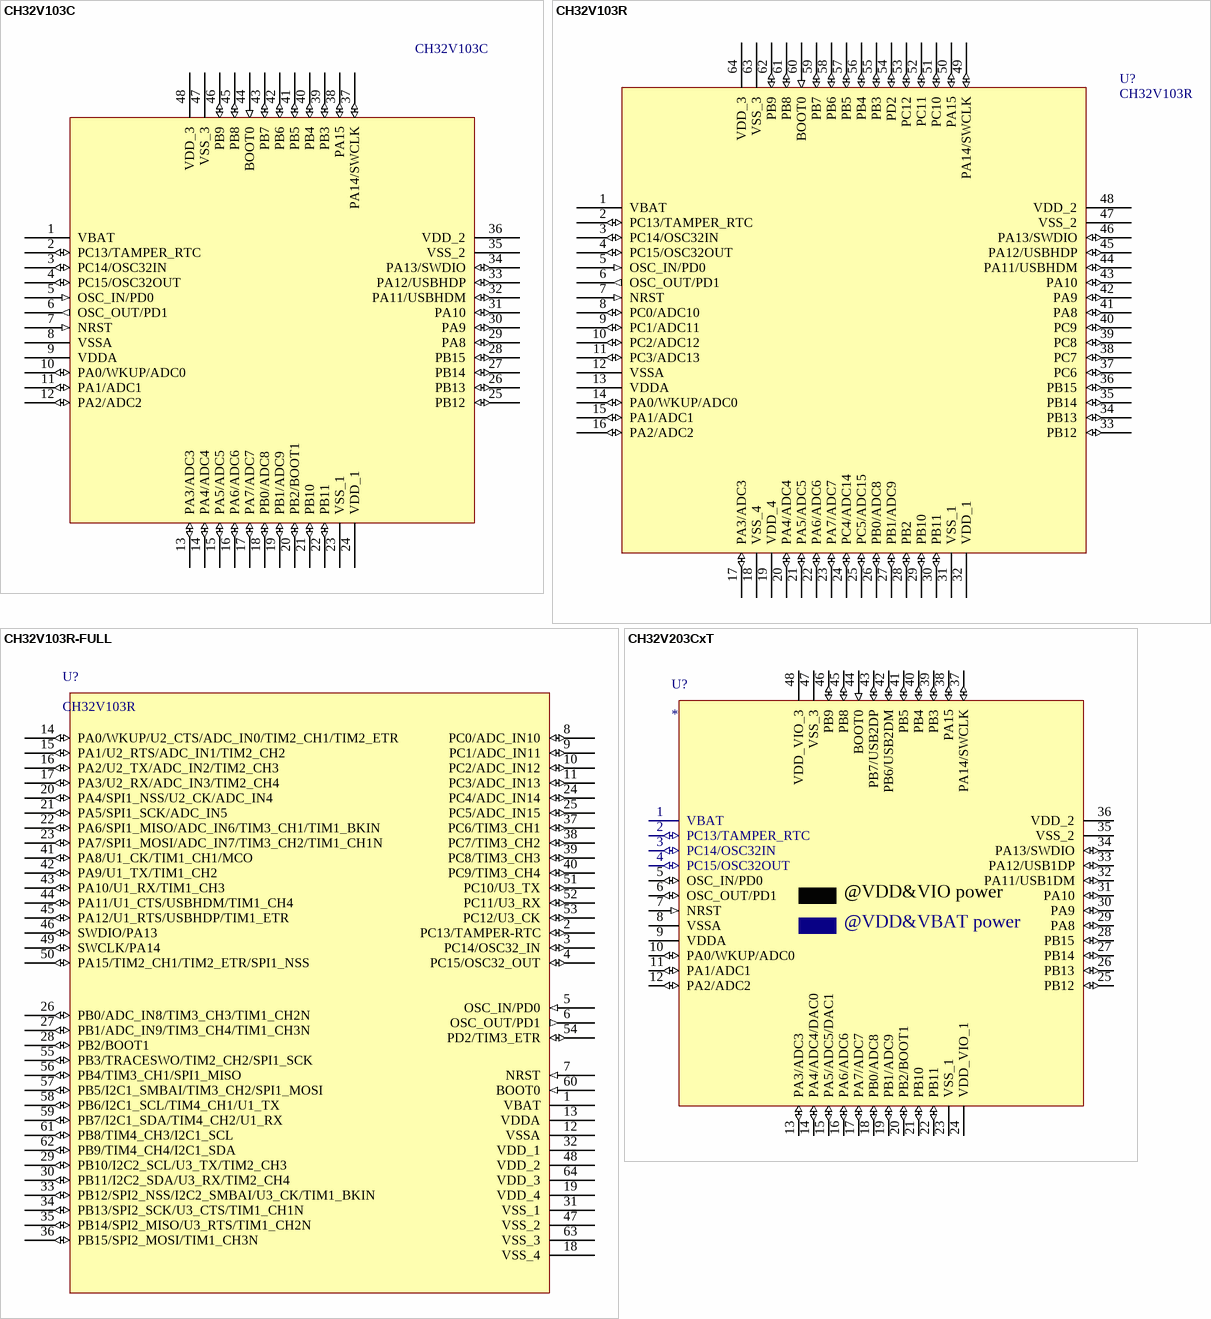
[diagram p3: symbols CH32V103C to CH32V203CxT]

## CH32V103C
designator U?
RISC-V MCU with USB device & USB host & ADC & Touch Key
footprint LQFP48 (Footprint not found)
footprint QFN48_7X7 (Footprint not found)
pins: 1 VBAT (power), 2 PC13/TAMPER_RTC (io), 3 PC14/OSC32IN (io), 4 PC15/OSC32OUT (io), 5 OSC_IN/PD0 (in), 6 OSC_OUT/PD1 (out), 7 NRST (in), 8 VSSA, 9 VDDA, 10 PA0/WKUP/ADC0 (io), 11 PA1/ADC1 (io), 12 PA2/ADC2 (io), 13 PA3/ADC3 (io), 14 PA4/ADC4 (io), 15 PA5/ADC5 (io), 16 PA6/ADC6 (io), 17 PA7/ADC7 (io), 18 PB0/ADC8 (io), 19 PB1/ADC9 (io), 20 PB2/BOOT1 (io), 21 PB10 (io), 22 PB11 (io), 23 VSS_1, 24 VDD_1, 25 PB12 (io), 26 PB13 (io), 27 PB14 (io), 28 PB15 (io), 29 PA8 (io), 30 PA9 (io), 31 PA10 (io), 32 PA11/USBHDM (io), 33 PA12/USBHDP (io), 34 PA13/SWDIO (io), 35 VSS_2, 36 VDD_2, 37 PA14/SWCLK (io), 38 PA15 (io), 39 PB3 (io), 40 PB4 (io), 41 PB5 (io), 42 PB6 (io), 43 PB7 (io), 44 BOOT0 (in), 45 PB8 (io), 46 PB9 (io), 47 VSS_3, 48 VDD_3

## CH32V103R
designator U?
RISC-V MCU with USB device & USB host & ADC & Touch Key
footprint LQFP64M_10X10
pins: 1 VBAT (power), 2 PC13/TAMPER_RTC (io), 3 PC14/OSC32IN (io), 4 PC15/OSC32OUT (io), 5 OSC_IN/PD0 (in), 6 OSC_OUT/PD1 (out), 7 NRST (in), 8 PC0/ADC10 (io), 9 PC1/ADC11 (io), 10 PC2/ADC12 (io), 11 PC3/ADC13 (io), 12 VSSA (power), 13 VDDA (power), 14 PA0/WKUP/ADC0 (io), 15 PA1/ADC1 (io), 16 PA2/ADC2 (io), 17 PA3/ADC3 (io), 18 VSS_4 (power), 19 VDD_4 (power), 20 PA4/ADC4 (io), 21 PA5/ADC5 (io), 22 PA6/ADC6 (io), 23 PA7/ADC7 (io), 24 PC4/ADC14 (io), 25 PC5/ADC15 (io), 26 PB0/ADC8 (io), 27 PB1/ADC9 (io), 28 PB2 (io), 29 PB10 (io), 30 PB11 (io), 31 VSS_1 (power), 32 VDD_1 (power), 33 PB12 (io), 34 PB13 (io), 35 PB14 (io), 36 PB15 (io), 37 PC6 (io), 38 PC7 (io), 39 PC8 (io), 40 PC9 (io), 41 PA8 (io), 42 PA9 (io), 43 PA10 (io), 44 PA11/USBHDM (io), 45 PA12/USBHDP (io), 46 PA13/SWDIO (io), 47 VSS_2 (power), 48 VDD_2 (power), 49 PA14/SWCLK (io), 50 PA15 (io), 51 PC10 (io), 52 PC11 (io), 53 PC12 (io), 54 PD2 (io), 55 PB3 (io), 56 PB4 (io), 57 PB5 (io), 58 PB6 (io), 59 PB7 (io), 60 BOOT0 (in), 61 PB8 (io), 62 PB9 (io), 63 VSS_3 (power), 64 VDD_3 (power)

## CH32V103R-FULL
designator U?, comment CH32V103R
RISC-V MCU with USB device & USB host & ADC & Touch Key
footprint LQFP64M_10X10 (Footprint not found)
pins: 1 VBAT (power), 2 PC13/TAMPER-RTC (io), 3 PC14/OSC32_IN (io), 4 PC15/OSC32_OUT (io), 5 OSC_IN/PD0 (in), 6 OSC_OUT/PD1 (out), 7 NRST (in), 8 PC0/ADC_IN10 (io), 9 PC1/ADC_IN11 (io), 10 PC2/ADC_IN12 (io), 11 PC3/ADC_IN13 (io), 12 VSSA (power), 13 VDDA (power), 14 PA0/WKUP/U2_CTS/ADC_IN0/TIM2_CH1/TIM2_ETR (io), 15 PA1/U2_RTS/ADC_IN1/TIM2_CH2 (io), 16 PA2/U2_TX/ADC_IN2/TIM2_CH3 (io), 17 PA3/U2_RX/ADC_IN3/TIM2_CH4 (io), 18 VSS_4 (power), 19 VDD_4 (power), 20 PA4/SPI1_NSS/U2_CK/ADC_IN4 (io), 21 PA5/SPI1_SCK/ADC_IN5 (io), 22 PA6/SPI1_MISO/ADC_IN6/TIM3_CH1/TIM1_BKIN (io), 23 PA7/SPI1_MOSI/ADC_IN7/TIM3_CH2/TIM1_CH1N (io), 24 PC4/ADC_IN14 (io), 25 PC5/ADC_IN15 (io), 26 PB0/ADC_IN8/TIM3_CH3/TIM1_CH2N (io), 27 PB1/ADC_IN9/TIM3_CH4/TIM1_CH3N (io), 28 PB2/BOOT1 (io), 29 PB10/I2C2_SCL/U3_TX/TIM2_CH3 (io), 30 PB11/I2C2_SDA/U3_RX/TIM2_CH4 (io), 31 VSS_1 (power), 32 VDD_1 (power), 33 PB12/SPI2_NSS/I2C2_SMBAI/U3_CK/TIM1_BKIN (io), 34 PB13/SPI2_SCK/U3_CTS/TIM1_CH1N  (io), 35 PB14/SPI2_MISO/U3_RTS/TIM1_CH2N (io), 36 PB15/SPI2_MOSI/TIM1_CH3N (io), 37 PC6/TIM3_CH1 (io), 38 PC7/TIM3_CH2 (io), 39 PC8/TIM3_CH3 (io), 40 PC9/TIM3_CH4 (io), 41 PA8/U1_CK/TIM1_CH1/MCO (io), 42 PA9/U1_TX/TIM1_CH2 (io), 43 PA10/U1_RX/TIM1_CH3 (io), 44 PA11/U1_CTS/USBHDM/TIM1_CH4 (io), 45 PA12/U1_RTS/USBHDP/TIM1_ETR (io), 46 SWDIO/PA13 (io), 47 VSS_2 (power), 48 VDD_2 (power), 49 SWCLK/PA14 (io), 50 PA15/TIM2_CH1/TIM2_ETR/SPI1_NSS (io), 51 PC10/U3_TX (io), 52 PC11/U3_RX (io), 53 PC12/U3_CK (io), 54 PD2/TIM3_ETR (io), 55 PB3/TRACESWO/TIM2_CH2/SPI1_SCK (io), 56 PB4/TIM3_CH1/SPI1_MISO (io), 57 PB5/I2C1_SMBAI/TIM3_CH2/SPI1_MOSI (io), 58 PB6/I2C1_SCL/TIM4_CH1/U1_TX (io), 59 PB7/I2C1_SDA/TIM4_CH2/U1_RX (io), 60 BOOT0 (in), 61 PB8/TIM4_CH3/I2C1_SCL (io), 62 PB9/TIM4_CH4/I2C1_SDA (io), 63 VSS_3 (power), 64 VDD_3 (power)

## CH32V203CxT
designator U?
RISC-V MCU, 144MHz, 2*USB FS, CAN
footprint LQFP48
pins: 1 VBAT (power), 2 PC13/TAMPER_RTC (io), 3 PC14/OSC32IN (io), 4 PC15/OSC32OUT (io), 5 OSC_IN/PD0 (io), 6 OSC_OUT/PD1 (io), 7 NRST (in), 8 VSSA (power), 9 VDDA (power), 10 PA0/WKUP/ADC0 (io), 11 PA1/ADC1 (io), 12 PA2/ADC2 (io), 13 PA3/ADC3 (io), 14 PA4/ADC4/DAC0 (io), 15 PA5/ADC5/DAC1 (io), 16 PA6/ADC6 (io), 17 PA7/ADC7 (io), 18 PB0/ADC8 (io), 19 PB1/ADC9 (io), 20 PB2/BOOT1 (io), 21 PB10 (io), 22 PB11 (io), 23 VSS_1 (power), 24 VDD_VIO_1 (power), 25 PB12 (io), 26 PB13 (io), 27 PB14 (io), 28 PB15 (io), 29 PA8 (io), 30 PA9 (io), 31 PA10 (io), 32 PA11/USB1DM (io), 33 PA12/USB1DP (io), 34 PA13/SWDIO (io), 35 VSS_2 (power), 36 VDD_2 (power), 37 PA14/SWCLK (io), 38 PA15 (io), 39 PB3 (io), 40 PB4 (io), 41 PB5 (io), 42 PB6/USB2DM (io), 43 PB7/USB2DP (io), 44 BOOT0 (in), 45 PB8 (io), 46 PB9 (io), 47 VSS_3 (power), 48 VDD_VIO_3 (power)
text: @VDD&VIO power; @VDD&VBAT power

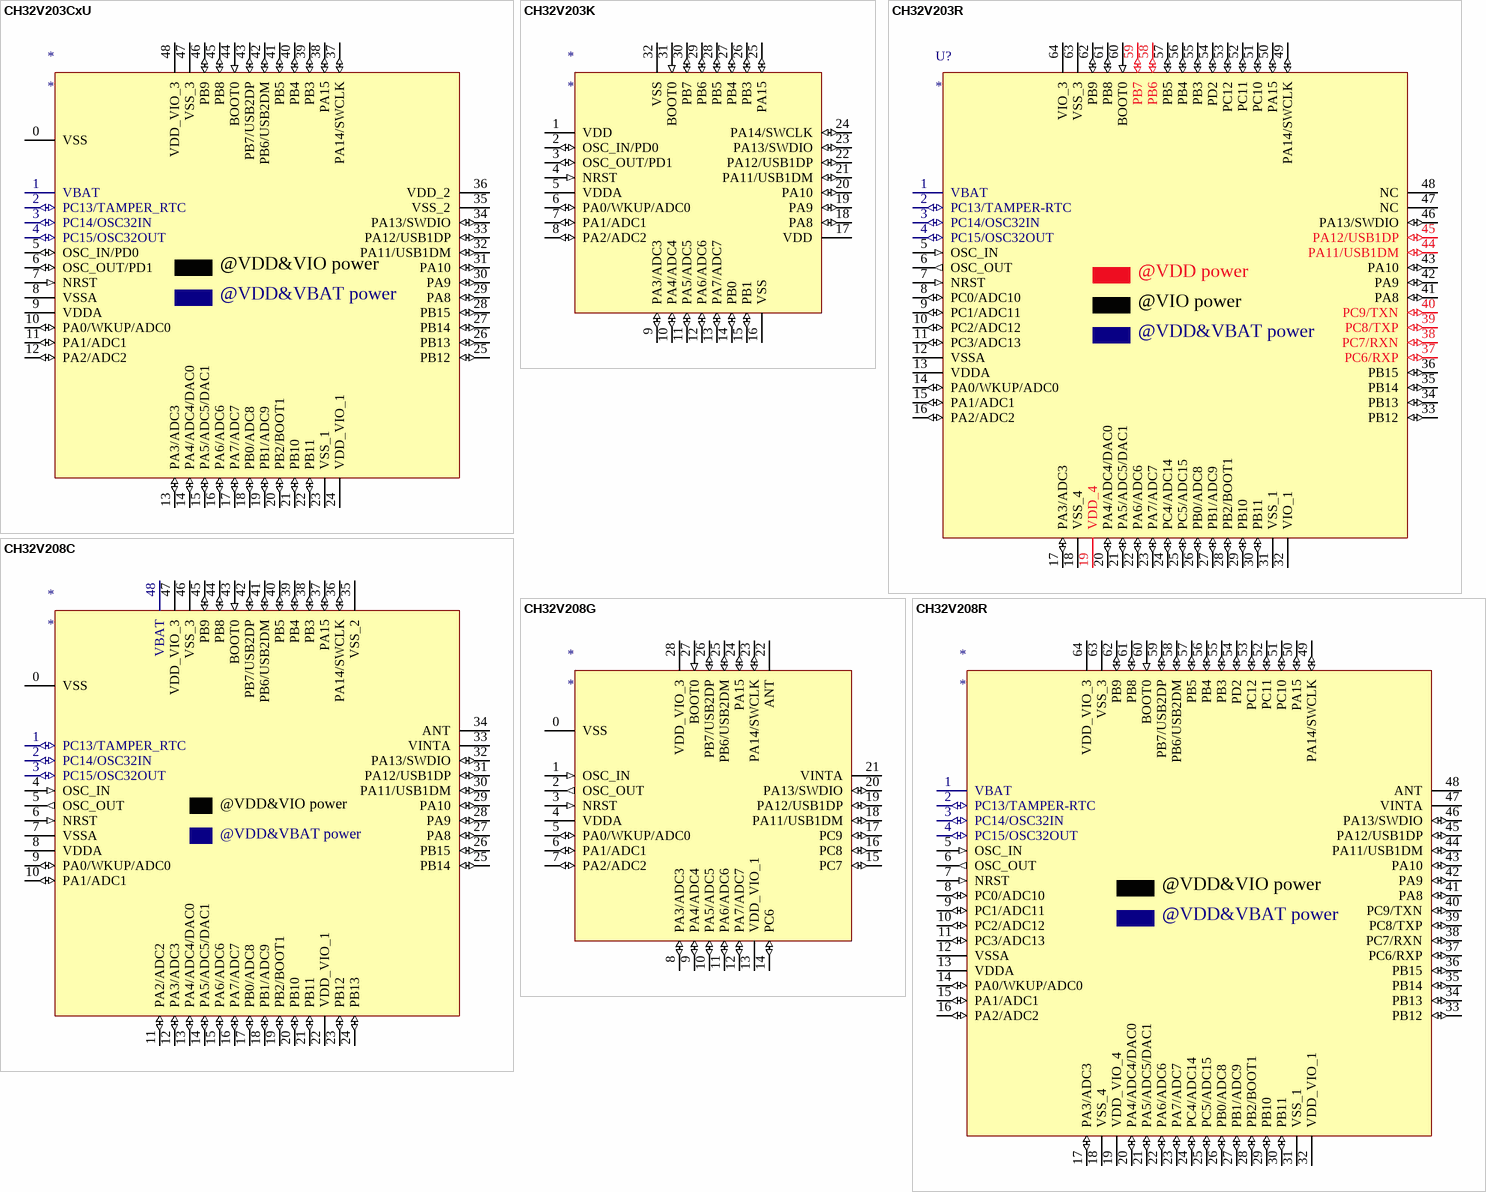
[diagram p4: symbols CH32V203CxU to CH32V208R]

## CH32V203CxU
designator *
RISC-V MCU, 144MHz, 2*USB FS, CAN
footprint QFN48_7X7 (Footprint not found)
pins: 0 VSS (power), 1 VBAT (power), 2 PC13/TAMPER_RTC (io), 3 PC14/OSC32IN (io), 4 PC15/OSC32OUT (io), 5 OSC_IN/PD0 (io), 6 OSC_OUT/PD1 (io), 7 NRST (in), 8 VSSA (power), 9 VDDA (power), 10 PA0/WKUP/ADC0 (io), 11 PA1/ADC1 (io), 12 PA2/ADC2 (io), 13 PA3/ADC3 (io), 14 PA4/ADC4/DAC0 (io), 15 PA5/ADC5/DAC1 (io), 16 PA6/ADC6 (io), 17 PA7/ADC7 (io), 18 PB0/ADC8 (io), 19 PB1/ADC9 (io), 20 PB2/BOOT1 (io), 21 PB10 (io), 22 PB11 (io), 23 VSS_1 (power), 24 VDD_VIO_1 (power), 25 PB12 (io), 26 PB13 (io), 27 PB14 (io), 28 PB15 (io), 29 PA8 (io), 30 PA9 (io), 31 PA10 (io), 32 PA11/USB1DM (io), 33 PA12/USB1DP (io), 34 PA13/SWDIO (io), 35 VSS_2 (power), 36 VDD_2 (power), 37 PA14/SWCLK (io), 38 PA15 (io), 39 PB3 (io), 40 PB4 (io), 41 PB5 (io), 42 PB6/USB2DM (io), 43 PB7/USB2DP (io), 44 BOOT0 (in), 45 PB8 (io), 46 PB9 (io), 47 VSS_3 (power), 48 VDD_VIO_3 (power)
text: @VDD&VIO power; @VDD&VBAT power

## CH32V203K
designator *
RISC-V MCU, 144MHz, USB FS, CAN
footprint LQFP32
pins: 1 VDD (power), 2 OSC_IN/PD0 (io), 3 OSC_OUT/PD1 (io), 4 NRST (in), 5 VDDA (power), 6 PA0/WKUP/ADC0 (io), 7 PA1/ADC1 (io), 8 PA2/ADC2 (io), 9 PA3/ADC3 (io), 10 PA4/ADC4 (io), 11 PA5/ADC5 (io), 12 PA6/ADC6 (io), 13 PA7/ADC7 (io), 14 PB0 (io), 15 PB1 (io), 16 VSS (power), 17 VDD (power), 18 PA8 (io), 19 PA9 (io), 20 PA10 (io), 21 PA11/USB1DM (io), 22 PA12/USB1DP (io), 23 PA13/SWDIO (io), 24 PA14/SWCLK (io), 25 PA15 (io), 26 PB3 (io), 27 PB4 (io), 28 PB5 (io), 29 PB6 (io), 30 PB7 (io), 31 BOOT0 (in), 32 VSS (power)

## CH32V203R
designator U?
RISC-V BLE5.1 MCU, 10M Ethernet, 2*USB, CAN
footprint LQFP64M_10x10
pins: 1 VBAT (power), 2 PC13/TAMPER-RTC (io), 3 PC14/OSC32IN (io), 4 PC15/OSC32OUT (io), 5 OSC_IN (in), 6 OSC_OUT (out), 7 NRST (in), 8 PC0/ADC10 (io), 9 PC1/ADC11 (io), 10 PC2/ADC12 (io), 11 PC3/ADC13 (io), 12 VSSA (power), 13 VDDA (power), 14 PA0/WKUP/ADC0 (io), 15 PA1/ADC1 (io), 16 PA2/ADC2 (io), 17 PA3/ADC3 (io), 18 VSS_4 (power), 19 VDD_4 (power), 20 PA4/ADC4/DAC0 (io), 21 PA5/ADC5/DAC1 (io), 22 PA6/ADC6 (io), 23 PA7/ADC7 (io), 24 PC4/ADC14 (io), 25 PC5/ADC15 (io), 26 PB0/ADC8 (io), 27 PB1/ADC9 (io), 28 PB2/BOOT1 (io), 29 PB10 (io), 30 PB11 (io), 31 VSS_1 (power), 32 VIO_1 (power), 33 PB12 (io), 34 PB13 (io), 35 PB14 (io), 36 PB15 (io), 37 PC6/RXP (io), 38 PC7/RXN (io), 39 PC8/TXP (io), 40 PC9/TXN (io), 41 PA8 (io), 42 PA9 (io), 43 PA10 (io), 44 PA11/USB1DM (io), 45 PA12/USB1DP (io), 46 PA13/SWDIO (io), 47 NC (power), 48 NC (power), 49 PA14/SWCLK (io), 50 PA15 (io), 51 PC10 (io), 52 PC11 (io), 53 PC12 (io), 54 PD2 (io), 55 PB3 (io), 56 PB4 (io), 57 PB5 (io), 58 PB6 (io), 59 PB7 (io), 60 BOOT0 (in), 61 PB8 (io), 62 PB9 (io), 63 VSS_3 (power), 64 VIO_3 (power)
text: @VDD power; @VIO power; @VDD&VBAT power

## CH32V208C
designator *
RISC-V BLE5.1 MCU, 10M Ethernet, 2*USB, CAN
footprint QFN48_5x5
pins: 0 VSS (power), 1 PC13/TAMPER_RTC (io), 2 PC14/OSC32IN (io), 3 PC15/OSC32OUT (io), 4 OSC_IN (in), 5 OSC_OUT (out), 6 NRST (in), 7 VSSA (power), 8 VDDA (power), 9 PA0/WKUP/ADC0 (io), 10 PA1/ADC1 (io), 11 PA2/ADC2 (io), 12 PA3/ADC3 (io), 13 PA4/ADC4/DAC0 (io), 14 PA5/ADC5/DAC1 (io), 15 PA6/ADC6 (io), 16 PA7/ADC7 (io), 17 PB0/ADC8 (io), 18 PB1/ADC9 (io), 19 PB2/BOOT1 (io), 20 PB10 (io), 21 PB11 (io), 22 VDD_VIO_1 (power), 23 PB12 (io), 24 PB13 (io), 25 PB14 (io), 26 PB15 (io), 27 PA8 (io), 28 PA9 (io), 29 PA10 (io), 30 PA11/USB1DM (io), 31 PA12/USB1DP (io), 32 PA13/SWDIO (io), 33 VINTA (power), 34 ANT (power), 35 VSS_2 (power), 36 PA14/SWCLK (io), 37 PA15 (io), 38 PB3 (io), 39 PB4 (io), 40 PB5 (io), 41 PB6/USB2DM (io), 42 PB7/USB2DP (io), 43 BOOT0 (in), 44 PB8 (io), 45 PB9 (io), 46 VSS_3 (power), 47 VDD_VIO_3 (power), 48 VBAT (power)
text: @VDD&VIO power; @VDD&VBAT power

## CH32V208G
designator *
RISC-V BLE5.1 MCU, 10M Ethernet, 2*USB, CAN
footprint QFN28_4x4
pins: 0 VSS (power), 1 OSC_IN (in), 2 OSC_OUT (out), 3 NRST (in), 4 VDDA (power), 5 PA0/WKUP/ADC0 (io), 6 PA1/ADC1 (io), 7 PA2/ADC2 (io), 8 PA3/ADC3 (io), 9 PA4/ADC4 (io), 10 PA5/ADC5 (io), 11 PA6/ADC6 (io), 12 PA7/ADC7 (io), 13 VDD_VIO_1 (power), 14 PC6 (io), 15 PC7 (io), 16 PC8 (io), 17 PC9 (io), 18 PA11/USB1DM (io), 19 PA12/USB1DP (io), 20 PA13/SWDIO (io), 21 VINTA (power), 22 ANT (power), 23 PA14/SWCLK (io), 24 PA15 (io), 25 PB6/USB2DM (io), 26 PB7/USB2DP (io), 27 BOOT0 (in), 28 VDD_VIO_3 (power)

## CH32V208R
designator *
RISC-V BLE5.1 MCU, 10M Ethernet, 2*USB, CAN
footprint LQFP64M_10x10
pins: 1 VBAT (power), 2 PC13/TAMPER-RTC (io), 3 PC14/OSC32IN (io), 4 PC15/OSC32OUT (io), 5 OSC_IN (in), 6 OSC_OUT (out), 7 NRST (in), 8 PC0/ADC10 (io), 9 PC1/ADC11 (io), 10 PC2/ADC12 (io), 11 PC3/ADC13 (io), 12 VSSA (power), 13 VDDA (power), 14 PA0/WKUP/ADC0 (io), 15 PA1/ADC1 (io), 16 PA2/ADC2 (io), 17 PA3/ADC3 (io), 18 VSS_4 (power), 19 VDD_VIO_4 (power), 20 PA4/ADC4/DAC0 (io), 21 PA5/ADC5/DAC1 (io), 22 PA6/ADC6 (io), 23 PA7/ADC7 (io), 24 PC4/ADC14 (io), 25 PC5/ADC15 (io), 26 PB0/ADC8 (io), 27 PB1/ADC9 (io), 28 PB2/BOOT1 (io), 29 PB10 (io), 30 PB11 (io), 31 VSS_1 (power), 32 VDD_VIO_1 (power), 33 PB12 (io), 34 PB13 (io), 35 PB14 (io), 36 PB15 (io), 37 PC6/RXP (io), 38 PC7/RXN (io), 39 PC8/TXP (io), 40 PC9/TXN (io), 41 PA8 (io), 42 PA9 (io), 43 PA10 (io), 44 PA11/USB1DM (io), 45 PA12/USB1DP (io), 46 PA13/SWDIO (io), 47 VINTA (power), 48 ANT (power), 49 PA14/SWCLK (io), 50 PA15 (io), 51 PC10 (io), 52 PC11 (io), 53 PC12 (io), 54 PD2 (io), 55 PB3 (io), 56 PB4 (io), 57 PB5 (io), 58 PB6/USB2DM (io), 59 PB7/USB2DP (io), 60 BOOT0 (in), 61 PB8 (io), 62 PB9 (io), 63 VSS_3 (power), 64 VDD_VIO_3 (power)
text: @VDD&VIO power; @VDD&VBAT power

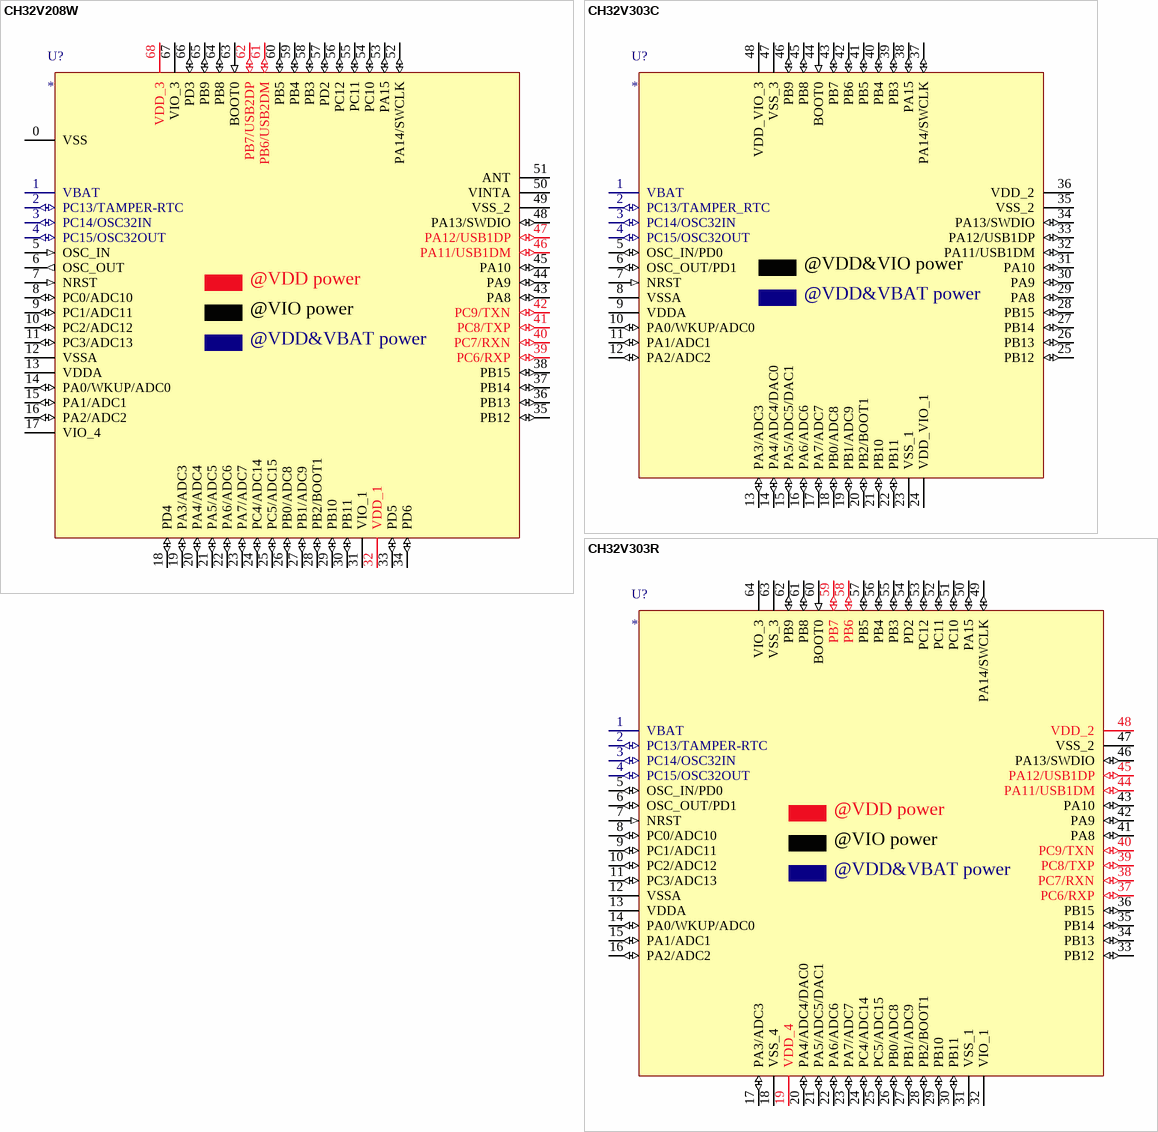
[diagram p5: symbols CH32V208W to CH32V303R]

## CH32V208W
designator U?
RISC-V BLE5.1 MCU, 10M Ethernet, 2*USB, CAN
footprint QFN68_8x8
pins: 0 VSS (power), 1 VBAT (power), 2 PC13/TAMPER-RTC (io), 3 PC14/OSC32IN (io), 4 PC15/OSC32OUT (io), 5 OSC_IN (in), 6 OSC_OUT (out), 7 NRST (in), 8 PC0/ADC10 (io), 9 PC1/ADC11 (io), 10 PC2/ADC12 (io), 11 PC3/ADC13 (io), 12 VSSA (power), 13 VDDA (power), 14 PA0/WKUP/ADC0 (io), 15 PA1/ADC1 (io), 16 PA2/ADC2 (io), 17 VIO_4 (power), 18 PD4 (io), 19 PA3/ADC3 (io), 20 PA4/ADC4 (io), 21 PA5/ADC5 (io), 22 PA6/ADC6 (io), 23 PA7/ADC7 (io), 24 PC4/ADC14 (io), 25 PC5/ADC15 (io), 26 PB0/ADC8 (io), 27 PB1/ADC9 (io), 28 PB2/BOOT1 (io), 29 PB10 (io), 30 PB11 (io), 31 VIO_1 (power), 32 VDD_1 (power), 33 PD5 (io), 34 PD6 (io), 35 PB12 (io), 36 PB13 (io), 37 PB14 (io), 38 PB15 (io), 39 PC6/RXP (io), 40 PC7/RXN (io), 41 PC8/TXP (io), 42 PC9/TXN (io), 43 PA8 (io), 44 PA9 (io), 45 PA10 (io), 46 PA11/USB1DM (io), 47 PA12/USB1DP (io), 48 PA13/SWDIO (io), 49 VSS_2 (power), 50 VINTA (power), 51 ANT (power), 52 PA14/SWCLK (io), 53 PA15 (io), 54 PC10 (io), 55 PC11 (io), 56 PC12 (io), 57 PD2 (io), 58 PB3 (io), 59 PB4 (io), 60 PB5 (io), 61 PB6/USB2DM (io), 62 PB7/USB2DP (io), 63 BOOT0 (in), 64 PB8 (io), 65 PB9 (io), 66 PD3 (io), 67 VIO_3 (power), 68 VDD_3 (power)
text: @VDD power; @VIO power; @VDD&VBAT power

## CH32V303C
designator U?
RISC-V FPU MCU, 144MHz, 8*UART, 10*Timer, 4*OPA
footprint LQFP48
pins: 1 VBAT (power), 2 PC13/TAMPER_RTC (io), 3 PC14/OSC32IN (io), 4 PC15/OSC32OUT (io), 5 OSC_IN/PD0 (io), 6 OSC_OUT/PD1 (io), 7 NRST (in), 8 VSSA (power), 9 VDDA (power), 10 PA0/WKUP/ADC0 (io), 11 PA1/ADC1 (io), 12 PA2/ADC2 (io), 13 PA3/ADC3 (io), 14 PA4/ADC4/DAC0 (io), 15 PA5/ADC5/DAC1 (io), 16 PA6/ADC6 (io), 17 PA7/ADC7 (io), 18 PB0/ADC8 (io), 19 PB1/ADC9 (io), 20 PB2/BOOT1 (io), 21 PB10 (io), 22 PB11 (io), 23 VSS_1 (power), 24 VDD_VIO_1 (power), 25 PB12 (io), 26 PB13 (io), 27 PB14 (io), 28 PB15 (io), 29 PA8 (io), 30 PA9 (io), 31 PA10 (io), 32 PA11/USB1DM (io), 33 PA12/USB1DP (io), 34 PA13/SWDIO (io), 35 VSS_2 (power), 36 VDD_2 (power), 37 PA14/SWCLK (io), 38 PA15 (io), 39 PB3 (io), 40 PB4 (io), 41 PB5 (io), 42 PB6 (io), 43 PB7 (io), 44 BOOT0 (in), 45 PB8 (io), 46 PB9 (io), 47 VSS_3 (power), 48 VDD_VIO_3 (power)
text: @VDD&VIO power; @VDD&VBAT power

## CH32V303R
designator U?
RISC-V FPU MCU, 144MHz, 8*UART, 10*Timer, 4*OPA
footprint LQFP64M_10x10
pins: 1 VBAT (power), 2 PC13/TAMPER-RTC (io), 3 PC14/OSC32IN (io), 4 PC15/OSC32OUT (io), 5 OSC_IN/PD0 (io), 6 OSC_OUT/PD1 (io), 7 NRST (in), 8 PC0/ADC10 (io), 9 PC1/ADC11 (io), 10 PC2/ADC12 (io), 11 PC3/ADC13 (io), 12 VSSA (power), 13 VDDA (power), 14 PA0/WKUP/ADC0 (io), 15 PA1/ADC1 (io), 16 PA2/ADC2 (io), 17 PA3/ADC3 (io), 18 VSS_4 (power), 19 VDD_4 (power), 20 PA4/ADC4/DAC0 (io), 21 PA5/ADC5/DAC1 (io), 22 PA6/ADC6 (io), 23 PA7/ADC7 (io), 24 PC4/ADC14 (io), 25 PC5/ADC15 (io), 26 PB0/ADC8 (io), 27 PB1/ADC9 (io), 28 PB2/BOOT1 (io), 29 PB10 (io), 30 PB11 (io), 31 VSS_1 (power), 32 VIO_1 (power), 33 PB12 (io), 34 PB13 (io), 35 PB14 (io), 36 PB15 (io), 37 PC6/RXP (io), 38 PC7/RXN (io), 39 PC8/TXP (io), 40 PC9/TXN (io), 41 PA8 (io), 42 PA9 (io), 43 PA10 (io), 44 PA11/USB1DM (io), 45 PA12/USB1DP (io), 46 PA13/SWDIO (io), 47 VSS_2 (power), 48 VDD_2 (power), 49 PA14/SWCLK (io), 50 PA15 (io), 51 PC10 (io), 52 PC11 (io), 53 PC12 (io), 54 PD2 (io), 55 PB3 (io), 56 PB4 (io), 57 PB5 (io), 58 PB6 (io), 59 PB7 (io), 60 BOOT0 (in), 61 PB8 (io), 62 PB9 (io), 63 VSS_3 (power), 64 VIO_3 (power)
text: @VDD power; @VIO power; @VDD&VBAT power

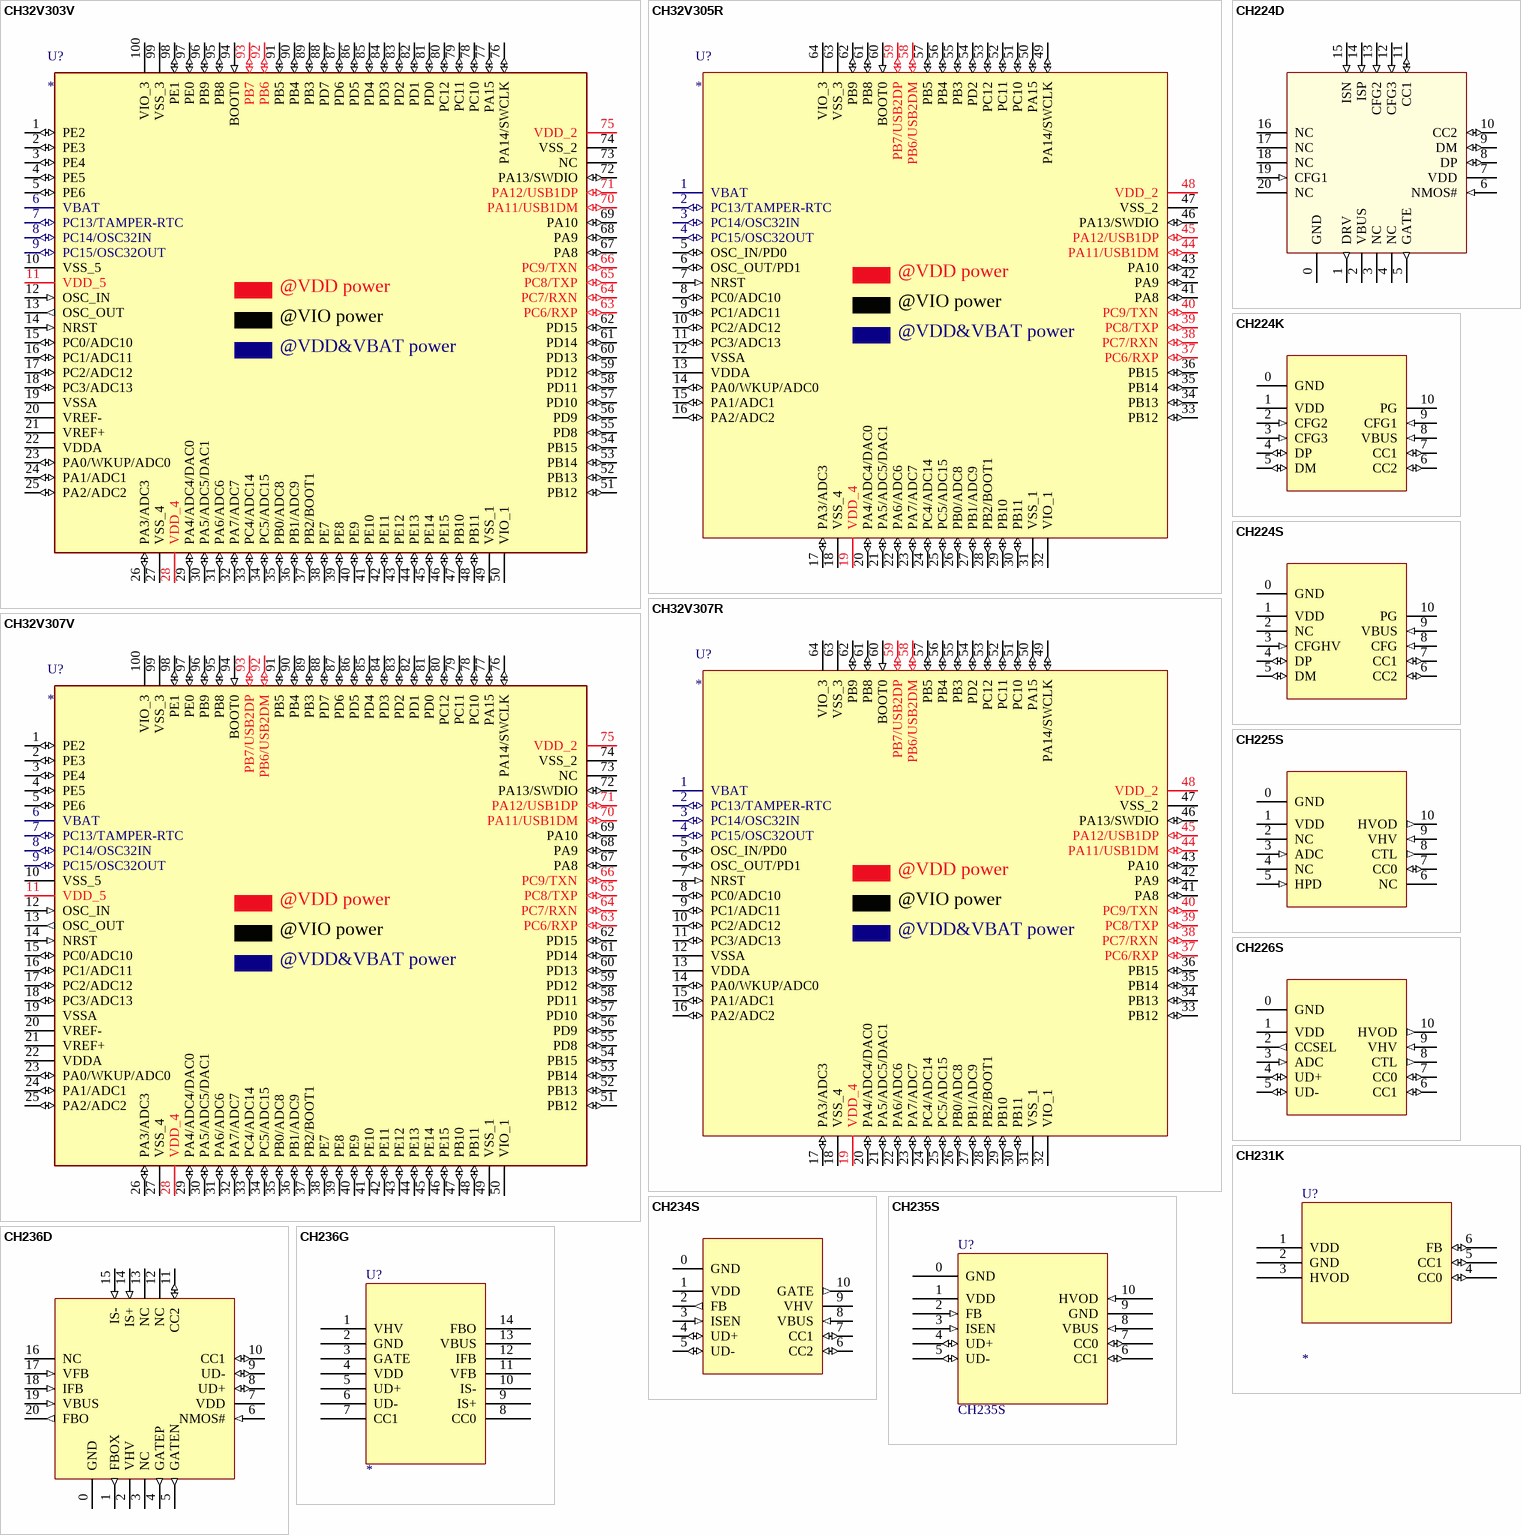
[diagram p6: symbols CH32V303V to CH236G]

## CH32V303V
designator U?
RISC-V FPU MCU, 144MHz, 8*UART, 10*Timer, 4*OPA
footprint LQFP100
pins: 1 PE2 (io), 2 PE3 (io), 3 PE4 (io), 4 PE5 (io), 5 PE6 (io), 6 VBAT (power), 7 PC13/TAMPER-RTC (io), 8 PC14/OSC32IN (io), 9 PC15/OSC32OUT (io), 10 VSS_5 (power), 11 VDD_5 (power), 12 OSC_IN (in), 13 OSC_OUT (out), 14 NRST (in), 15 PC0/ADC10 (io), 16 PC1/ADC11 (io), 17 PC2/ADC12 (io), 18 PC3/ADC13 (io), 19 VSSA (power), 20 VREF- (power), 21 VREF+ (power), 22 VDDA (power), 23 PA0/WKUP/ADC0 (io), 24 PA1/ADC1 (io), 25 PA2/ADC2 (io), 26 PA3/ADC3 (io), 27 VSS_4 (power), 28 VDD_4 (power), 29 PA4/ADC4/DAC0 (io), 30 PA5/ADC5/DAC1 (io), 31 PA6/ADC6 (io), 32 PA7/ADC7 (io), 33 PC4/ADC14 (io), 34 PC5/ADC15 (io), 35 PB0/ADC8 (io), 36 PB1/ADC9 (io), 37 PB2/BOOT1 (io), 38 PE7 (io), 39 PE8 (io), 40 PE9 (io), 41 PE10 (io), 42 PE11 (io), 43 PE12 (io), 44 PE13 (io), 45 PE14 (io), 46 PE15 (io), 47 PB10 (io), 48 PB11 (io), 49 VSS_1 (power), 50 VIO_1 (power), 51 PB12 (io), 52 PB13 (io), 53 PB14 (io), 54 PB15 (io), 55 PD8 (io), 56 PD9 (io), 57 PD10 (io), 58 PD11 (io), 59 PD12 (io), 60 PD13 (io), 61 PD14 (io), 62 PD15 (io), 63 PC6/RXP (io), 64 PC7/RXN (io), 65 PC8/TXP (io), 66 PC9/TXN (io), 67 PA8 (io), 68 PA9 (io), 69 PA10 (io), 70 PA11/USB1DM (io), 71 PA12/USB1DP (io), 72 PA13/SWDIO (io), 73 NC (hiz), 74 VSS_2 (power), 75 VDD_2 (power), 76 PA14/SWCLK (io), 77 PA15 (io), 78 PC10 (io), 79 PC11 (io), 80 PC12 (io), 81 PD0 (io), 82 PD1 (io), 83 PD2 (io), 84 PD3 (io), 85 PD4 (io), 86 PD5 (io), 87 PD6 (io), 88 PD7 (io), 89 PB3 (io), 90 PB4 (io), 91 PB5 (io), 92 PB6 (io), 93 PB7 (io), 94 BOOT0 (in), 95 PB8 (io), 96 PB9 (io), 97 PE0 (io), 98 PE1 (io), 99 VSS_3 (power), 100 VIO_3 (power)
text: @VDD power; @VIO power; @VDD&VBAT power

## CH32V305R
designator U?
RISC-V FPU MCU, 144MHz, USB_480M, USB OTG, 2*CAN, 4*OPA
footprint LQFP64M_10x10
pins: 1 VBAT (power), 2 PC13/TAMPER-RTC (io), 3 PC14/OSC32IN (io), 4 PC15/OSC32OUT (io), 5 OSC_IN/PD0 (io), 6 OSC_OUT/PD1 (io), 7 NRST (in), 8 PC0/ADC10 (io), 9 PC1/ADC11 (io), 10 PC2/ADC12 (io), 11 PC3/ADC13 (io), 12 VSSA (power), 13 VDDA (power), 14 PA0/WKUP/ADC0 (io), 15 PA1/ADC1 (io), 16 PA2/ADC2 (io), 17 PA3/ADC3 (io), 18 VSS_4 (power), 19 VDD_4 (power), 20 PA4/ADC4/DAC0 (io), 21 PA5/ADC5/DAC1 (io), 22 PA6/ADC6 (io), 23 PA7/ADC7 (io), 24 PC4/ADC14 (io), 25 PC5/ADC15 (io), 26 PB0/ADC8 (io), 27 PB1/ADC9 (io), 28 PB2/BOOT1 (io), 29 PB10 (io), 30 PB11 (io), 31 VSS_1 (power), 32 VIO_1 (power), 33 PB12 (io), 34 PB13 (io), 35 PB14 (io), 36 PB15 (io), 37 PC6/RXP (io), 38 PC7/RXN (io), 39 PC8/TXP (io), 40 PC9/TXN (io), 41 PA8 (io), 42 PA9 (io), 43 PA10 (io), 44 PA11/USB1DM (io), 45 PA12/USB1DP (io), 46 PA13/SWDIO (io), 47 VSS_2 (power), 48 VDD_2 (power), 49 PA14/SWCLK (io), 50 PA15 (io), 51 PC10 (io), 52 PC11 (io), 53 PC12 (io), 54 PD2 (io), 55 PB3 (io), 56 PB4 (io), 57 PB5 (io), 58 PB6/USB2DM (io), 59 PB7/USB2DP (io), 60 BOOT0 (in), 61 PB8 (io), 62 PB9 (io), 63 VSS_3 (power), 64 VIO_3 (power)
text: @VDD power; @VIO power; @VDD&VBAT power

## CH32V307R
designator U?
RISC-V FPU MCU, 144MHz, USB_480M, USB OTG, 1000M Ethernet MAC, 2*CAN
footprint LQFP64M_10x10
pins: 1 VBAT (power), 2 PC13/TAMPER-RTC (io), 3 PC14/OSC32IN (io), 4 PC15/OSC32OUT (io), 5 OSC_IN/PD0 (io), 6 OSC_OUT/PD1 (io), 7 NRST (in), 8 PC0/ADC10 (io), 9 PC1/ADC11 (io), 10 PC2/ADC12 (io), 11 PC3/ADC13 (io), 12 VSSA (power), 13 VDDA (power), 14 PA0/WKUP/ADC0 (io), 15 PA1/ADC1 (io), 16 PA2/ADC2 (io), 17 PA3/ADC3 (io), 18 VSS_4 (power), 19 VDD_4 (power), 20 PA4/ADC4/DAC0 (io), 21 PA5/ADC5/DAC1 (io), 22 PA6/ADC6 (io), 23 PA7/ADC7 (io), 24 PC4/ADC14 (io), 25 PC5/ADC15 (io), 26 PB0/ADC8 (io), 27 PB1/ADC9 (io), 28 PB2/BOOT1 (io), 29 PB10 (io), 30 PB11 (io), 31 VSS_1 (power), 32 VIO_1 (power), 33 PB12 (io), 34 PB13 (io), 35 PB14 (io), 36 PB15 (io), 37 PC6/RXP (io), 38 PC7/RXN (io), 39 PC8/TXP (io), 40 PC9/TXN (io), 41 PA8 (io), 42 PA9 (io), 43 PA10 (io), 44 PA11/USB1DM (io), 45 PA12/USB1DP (io), 46 PA13/SWDIO (io), 47 VSS_2 (power), 48 VDD_2 (power), 49 PA14/SWCLK (io), 50 PA15 (io), 51 PC10 (io), 52 PC11 (io), 53 PC12 (io), 54 PD2 (io), 55 PB3 (io), 56 PB4 (io), 57 PB5 (io), 58 PB6/USB2DM (io), 59 PB7/USB2DP (io), 60 BOOT0 (in), 61 PB8 (io), 62 PB9 (io), 63 VSS_3 (power), 64 VIO_3 (power)
text: @VDD power; @VIO power; @VDD&VBAT power

## CH32V307V
designator U?
RISC-V FPU MCU, 144MHz, USB_480M, USB OTG, 1000M Ethernet MAC, 2*CAN
footprint LQFP100
pins: 1 PE2 (io), 2 PE3 (io), 3 PE4 (io), 4 PE5 (io), 5 PE6 (io), 6 VBAT (power), 7 PC13/TAMPER-RTC (io), 8 PC14/OSC32IN (io), 9 PC15/OSC32OUT (io), 10 VSS_5 (power), 11 VDD_5 (power), 12 OSC_IN (in), 13 OSC_OUT (out), 14 NRST (in), 15 PC0/ADC10 (io), 16 PC1/ADC11 (io), 17 PC2/ADC12 (io), 18 PC3/ADC13 (io), 19 VSSA (power), 20 VREF- (power), 21 VREF+ (power), 22 VDDA (power), 23 PA0/WKUP/ADC0 (io), 24 PA1/ADC1 (io), 25 PA2/ADC2 (io), 26 PA3/ADC3 (io), 27 VSS_4 (power), 28 VDD_4 (power), 29 PA4/ADC4/DAC0 (io), 30 PA5/ADC5/DAC1 (io), 31 PA6/ADC6 (io), 32 PA7/ADC7 (io), 33 PC4/ADC14 (io), 34 PC5/ADC15 (io), 35 PB0/ADC8 (io), 36 PB1/ADC9 (io), 37 PB2/BOOT1 (io), 38 PE7 (io), 39 PE8 (io), 40 PE9 (io), 41 PE10 (io), 42 PE11 (io), 43 PE12 (io), 44 PE13 (io), 45 PE14 (io), 46 PE15 (io), 47 PB10 (io), 48 PB11 (io), 49 VSS_1 (power), 50 VIO_1 (power), 51 PB12 (io), 52 PB13 (io), 53 PB14 (io), 54 PB15 (io), 55 PD8 (io), 56 PD9 (io), 57 PD10 (io), 58 PD11 (io), 59 PD12 (io), 60 PD13 (io), 61 PD14 (io), 62 PD15 (io), 63 PC6/RXP (io), 64 PC7/RXN (io), 65 PC8/TXP (io), 66 PC9/TXN (io), 67 PA8 (io), 68 PA9 (io), 69 PA10 (io), 70 PA11/USB1DM (io), 71 PA12/USB1DP (io), 72 PA13/SWDIO (io), 73 NC (hiz), 74 VSS_2 (power), 75 VDD_2 (power), 76 PA14/SWCLK (io), 77 PA15 (io), 78 PC10 (io), 79 PC11 (io), 80 PC12 (io), 81 PD0 (io), 82 PD1 (io), 83 PD2 (io), 84 PD3 (io), 85 PD4 (io), 86 PD5 (io), 87 PD6 (io), 88 PD7 (io), 89 PB3 (io), 90 PB4 (io), 91 PB5 (io), 92 PB6/USB2DM (io), 93 PB7/USB2DP (io), 94 BOOT0 (in), 95 PB8 (io), 96 PB9 (io), 97 PE0 (io), 98 PE1 (io), 99 VSS_3 (power), 100 VIO_3 (power)
text: @VDD power; @VIO power; @VDD&VBAT power

## CH224D
designator U?  (value not drawn)
USB PD & Type-C & Fast Charge Power Consumer Controller
footprint QFN20_3X3
pins: 0 GND (power), 1 DRV (out), 2 VBUS (power), 3 NC, 4 NC, 5 GATE (out), 6 NMOS# (in), 7 VDD (power), 8 DP (io), 9 DM (io), 10 CC2 (io), 11 CC1 (io), 12 CFG3 (in), 13 CFG2 (in), 14 ISP (in), 15 ISN (in), 16 NC, 17 NC, 18 NC, 19 CFG1 (in), 20 NC

## CH224K
designator U?  (value not drawn)
USB PD & Type-C & Fast Charge Power Consumer Controller
footprint ESSOP10
pins: 0 GND (power), 1 VDD (power), 2 CFG2 (in), 3 CFG3 (in), 4 DP (io), 5 DM (io), 6 CC2 (io), 7 CC1 (io), 8 VBUS (in), 9 CFG1 (in), 10 PG

## CH224S
designator U?  (value not drawn)
USB PD & Type-C & Fast Charge Power Consumer Controller
footprint ESSOP10
pins: 0 GND (power), 1 VDD (power), 2 NC, 3 CFGHV (in), 4 DP (io), 5 DM (io), 6 CC2 (io), 7 CC1 (io), 8 CFG (in), 9 VBUS (in), 10 PG

## CH225S
designator U?  (value not drawn)
USB PD & Type-C & Fast Charge Power Consumer Controller
footprint ESSOP10
pins: 0 GND (power), 1 VDD (power), 2 NC, 3 ADC (in), 4 NC, 5 HPD (in), 6 NC, 7 CC0 (io), 8 CTL (out), 9 VHV (in), 10 HVOD (out)

## CH226S
designator U?  (value not drawn)
USB PD & Type-C & Fast Charge Power Consumer Controller
footprint ESSOP10
pins: 0 GND (power), 1 VDD (power), 2 CCSEL (out), 3 ADC (in), 4 UD+ (io), 5 UD- (io), 6 CC1 (io), 7 CC0 (io), 8 CTL (out), 9 VHV (in), 10 HVOD (out)

## CH231K
designator U?
USB PD & Type-C Power Provider Controller
footprint SOT-23-6
pins: 1 VDD (power), 2 GND (power), 3 HVOD (oc), 4 CC0 (io), 5 CC1 (io), 6 FB (io)

## CH234S
designator U?  (value not drawn)
USB PD & Type-C & Fast Charge Power Provider Controller
footprint ESSOP10
pins: 0 GND (power), 1 VDD (power), 2 FB (out), 3 ISEN (in), 4 UD+ (io), 5 UD- (io), 6 CC2 (io), 7 CC1 (io), 8 VBUS (in), 9 VHV (power), 10 GATE (out)

## CH235S
designator U?
USB PD & Type-C & Fast Charge Power Provider Controller
footprint ESSOP10
pins: 0 GND (power), 1 VDD (power), 2 FB (in), 3 ISEN (in), 4 UD+ (io), 5 UD- (io), 6 CC1 (io), 7 CC0 (io), 8 VBUS (in), 9 GND (power), 10 HVOD (in)

## CH236D
designator U?  (value not drawn)
USB PD & Type-C & Fast Charge Power Provider Controller
footprint QFN20_3X3
pins: 0 GND (power), 1 FBOX (out), 2 VHV (power), 3 NC, 4 GATEP (out), 5 GATEN (out), 6 NMOS# (in), 7 VDD (power), 8 UD+ (io), 9 UD- (io), 10 CC1 (io), 11 CC2 (io), 12 NC, 13 NC, 14 IS+ (in), 15 IS- (in), 16 NC, 17 VFB (in), 18 IFB (in), 19 VBUS (in), 20 FBO (out)

## CH236G
designator U?
USB PD & Type-C & Fast Charge Power Provider Controller
footprint SOP14
pins: 1 VHV, 2 GND (power), 3 GATE, 4 VDD (power), 5 UD+, 6 UD-, 7 CC1, 8 CC0 (power), 9 IS+, 10 IS- (power), 11 VFB, 12 IFB, 13 VBUS, 14 FBO (power)
2 alternate drawings of the same symbol

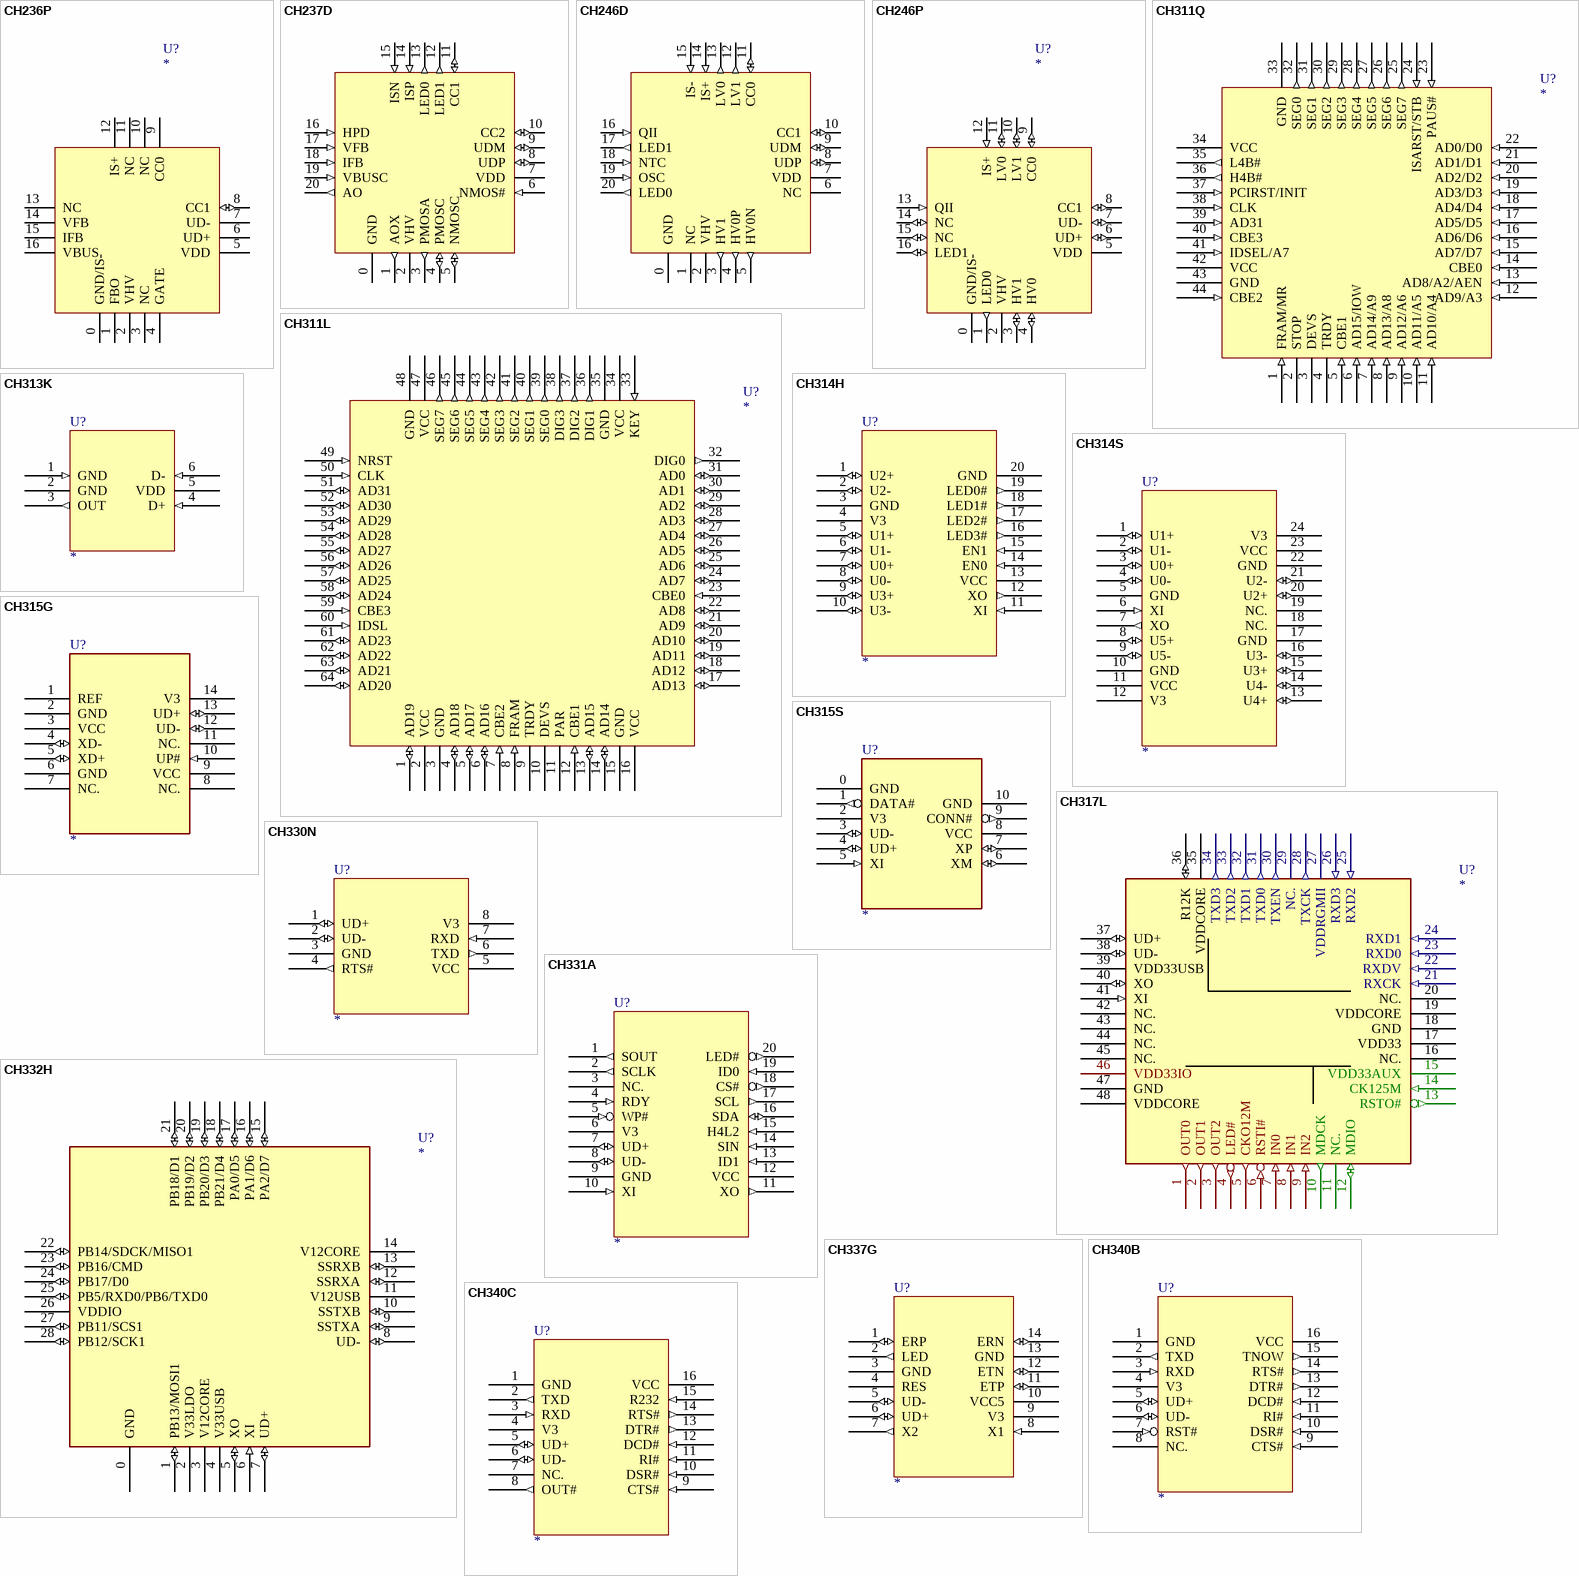
[diagram p7: symbols CH236P to CH340C]

## CH236P
designator U?
USB PD & Type-C & Fast Charge Power Provider Controller
footprint QFN16_3x3
pins: 0 GND/IS- (power), 1 FBO, 2 VHV (power), 3 NC, 4 GATE, 5 VDD (power), 6 UD+, 7 UD-, 8 CC1 (io), 9 CC0, 10 NC, 11 NC, 12 IS+, 13 NC, 14 VFB, 15 IFB, 16 VBUS
2 alternate drawings of the same symbol

## CH237D
designator U?  (value not drawn)
USB PD & Type-C & Fast Charge Power Provider Controller, A+C
footprint QFN20_3X3
pins: 0 GND (power), 1 AOX (out), 2 VHV (power), 3 PMOSA (out), 4 PMOSC (io), 5 NMOSC (io), 6 NMOS# (in), 7 VDD (power), 8 UDP (io), 9 UDM (io), 10 CC2 (io), 11 CC1 (io), 12 LED1 (out), 13 LED0 (out), 14 ISP (in), 15 ISN (in), 16 HPD (in), 17 VFB (in), 18 IFB (in), 19 VBUSC (in), 20 AO (out)

## CH246D
designator U?  (value not drawn)
Wireless Charge Power Provider Controller with USB PD & Fast Charge Sink
footprint QFN20_3X3
pins: 0 GND (power), 1 NC, 2 VHV (power), 3 HV1 (out), 4 HV0P (out), 5 HV0N (out), 6 NC, 7 VDD (power), 8 UDP (io), 9 UDM (io), 10 CC1 (io), 11 CC0 (io), 12 LV1 (out), 13 LV0 (out), 14 IS+ (in), 15 IS- (in), 16 QII (in), 17 LED1 (out), 18 NTC (in), 19 OSC (in), 20 LED0 (out)

## CH246P
designator U?
QI charger with high voltage power manager
footprint QFN16_3x3
pins: 0 GND/IS- (power), 1 LED0 (out), 2 VHV (power), 3 HV1 (io), 4 HV0 (io), 5 VDD (power), 6 UD+ (io), 7 UD- (io), 8 CC1 (io), 9 CC0 (io), 10 LV1 (io), 11 LV0 (io), 12 IS+ (in), 13 QII (in), 14 NC (io), 15 NC (io), 16 LED1 (io)
2 alternate drawings of the same symbol

## CH311L
designator U?
PC debug port monitor, 4 Digits * 8 Segments, PCI
footprint LQFP64
pins: 1 AD19 (io), 2 VCC (power), 3 GND (power), 4 AD18 (io), 5 AD17 (io), 6 AD16 (io), 7 CBE2 (in), 8 FRAM (in), 9 TRDY (hiz), 10 DEVS (hiz), 11 PAR (hiz), 12 CBE1 (in), 13 AD15 (io), 14 AD14 (io), 15 GND (power), 16 VCC (power), 17 AD13 (io), 18 AD12 (io), 19 AD11 (io), 20 AD10 (io), 21 AD9 (io), 22 AD8 (io), 23 CBE0 (in), 24 AD7 (io), 25 AD6 (io), 26 AD5 (io), 27 AD4 (io), 28 AD3 (io), 29 AD2 (io), 30 AD1 (io), 31 AD0 (io), 32 DIG0 (out), 33 KEY (in), 34 VCC (power), 35 GND (power), 36 DIG1 (out), 37 DIG2 (out), 38 DIG3 (out), 39 SEG0 (out), 40 SEG1 (out), 41 SEG2 (out), 42 SEG3 (out), 43 SEG4 (out), 44 SEG5 (out), 45 SEG6 (out), 46 SEG7 (out), 47 VCC (power), 48 GND (power), 49 NRST (in), 50 CLK (in), 51 AD31 (io), 52 AD30 (io), 53 AD29 (io), 54 AD28 (io), 55 AD27 (io), 56 AD26 (io), 57 AD25 (io), 58 AD24 (io), 59 CBE3 (in), 60 IDSL (in), 61 AD23 (io), 62 AD22 (io), 63 AD21 (io), 64 AD20 (io)

## CH311Q
designator U?
PC debug port monitor, 2 Digits * 8 Segments, PCI & ISA & LPT
footprint LQFP44
pins: 1 FRAM/MR (in), 2 STOP (hiz), 3 DEVS (hiz), 4 TRDY (hiz), 5 CBE1 (in), 6 AD15/IOW (in), 7 AD14/A9 (in), 8 AD13/A8 (in), 9 AD12/A6 (in), 10 AD11/A5 (in), 11 AD10/A4 (in), 12 AD9/A3 (in), 13 AD8/A2/AEN (in), 14 CBE0 (in), 15 AD7/D7 (in), 16 AD6/D6 (in), 17 AD5/D5 (in), 18 AD4/D4 (in), 19 AD3/D3 (in), 20 AD2/D2 (in), 21 AD1/D1 (in), 22 AD0/D0 (in), 23 PAUS# (in), 24 ISARST/STB (in), 25 SEG7 (out), 26 SEG6 (out), 27 SEG5 (out), 28 SEG4 (out), 29 SEG3 (out), 30 SEG2 (out), 31 SEG1 (out), 32 SEG0 (out), 33 GND (power), 34 VCC (power), 35 L4B# (out), 36 H4B# (out), 37 PCIRST/INIT (in), 38 CLK (in), 39 AD31 (in), 40 CBE3 (in), 41 IDSEL/A7 (in), 42 VCC (power), 43 GND (power), 44 CBE2 (in)

## CH313K
designator U?
USB transfer detection
footprint SOT-363
pins: 1 GND (in), 2 GND (power), 3 OUT (out), 4 D+ (in), 5 VDD (power), 6 D- (in)
2 alternate drawings of the same symbol

## CH314H
designator U?
USB device charger, 4 host ports
footprint SOP20
pins: 1 U2+ (io), 2 U2- (io), 3 GND (power), 4 V3 (power), 5 U1+ (io), 6 U1- (io), 7 U0+ (io), 8 U0- (io), 9 U3+ (io), 10 U3- (io), 11 XI (in), 12 XO (out), 13 VCC (power), 14 EN0 (in), 15 EN1 (in), 16 LED3# (out), 17 LED2# (out), 18 LED1# (out), 19 LED0# (out), 20 GND (power)

## CH314S
designator U?
USB device charger, 6 host ports
footprint SOP24
pins: 1 U1+ (io), 2 U1- (io), 3 U0+ (io), 4 U0- (io), 5 GND (power), 6 XI (in), 7 XO (out), 8 U5+ (io), 9 U5- (io), 10 GND (power), 11 VCC (power), 12 V3 (power), 13 U4+ (io), 14 U4- (io), 15 U3+ (io), 16 U3- (io), 17 GND (power), 18 NC., 19 NC., 20 U2+ (io), 21 U2- (io), 22 GND (power), 23 VCC (power), 24 V3 (power)

## CH315G
designator U?
USB lengthen wire controller, Full-Speed & Low-Speed
footprint SOP14
pins: 1 REF (power), 2 GND (power), 3 VCC (power), 4 XD- (io), 5 XD+ (io), 6 GND (power), 7 NC., 8 NC., 9 VCC (power), 10 UP# (in), 11 NC., 12 UD- (io), 13 UD+ (io), 14 V3 (power)

## CH315S
designator U?
USB Isolation & lengthen wire controller, Full-Speed & Low-Speed
footprint ESSOP10
pins: 0 GND (power), 1 DATA# (out), 2 V3 (power), 3 UD- (io), 4 UD+ (io), 5 XI (in), 6 XM (io), 7 XP (io), 8 VCC (power), 9 CONN# (out), 10 GND (power)

## CH317L
designator U?
High-Speed USB lengthen wire controller for longer distance
footprint LQFP48
pins: 1 OUT0 (out), 2 OUT1 (out), 3 OUT2 (out), 4 LED# (out), 5 CKO12M (out), 6 RSTI# (in), 7 IN0 (in), 8 IN1 (in), 9 IN2 (in), 10 MDCK (out), 11 NC., 12 MDIO (io), 13 RSTO# (out), 14 CK125M (in), 15 VDD33AUX (power), 16 NC., 17 VDD33 (power), 18 GND (power), 19 VDDCORE (power), 20 NC., 21 RXCK (in), 22 RXDV (in), 23 RXD0 (in), 24 RXD1 (in), 25 RXD2 (in), 26 RXD3 (in), 27 VDDRGMII (power), 28 TXCK (out), 29 NC., 30 TXEN (out), 31 TXD0 (out), 32 TXD1 (out), 33 TXD2 (out), 34 TXD3 (out), 35 VDDCORE (power), 36 R12K (io), 37 UD+ (io), 38 UD- (io), 39 VDD33USB (power), 40 XO (io), 41 XI (in), 42 NC., 43 NC., 44 NC., 45 NC., 46 VDD33IO (power), 47 GND (power), 48 VDDCORE (power)

## CH330N
designator U?
USB to TTL Serial / UART
footprint SOP8
pins: 1 UD+ (io), 2 UD- (io), 3 GND (power), 4 RTS# (out), 5 VCC (power), 6 TXD (out), 7 RXD (in), 8 V3 (power)

## CH331A
designator U?
Mini USB Disk Controller for serial EEPROM or Flash
footprint SSOP20
pins: 1 SOUT (out), 2 SCLK (out), 3 NC., 4 RDY (in), 5 WP# (in), 6 V3 (power), 7 UD+ (io), 8 UD- (io), 9 GND (power), 10 XI (in), 11 XO (out), 12 VCC (power), 13 ID1 (in), 14 SIN (in), 15 H4L2 (in), 16 SDA (io), 17 SCL (out), 18 CS# (out), 19 ID0 (in), 20 LED# (out)

## CH332H
designator U?
RISC-V USB 3.0 Disk Controller with AES/SM4
footprint QFN28_5X5
pins: 0 GND (power), 1 PB13/MOSI1 (io), 2 V33LDO (power), 3 V12CORE (power), 4 V33USB (power), 5 XO (io), 6 XI (in), 7 UD+ (io), 8 UD- (io), 9 SSTXA (io), 10 SSTXB (io), 11 V12USB (power), 12 SSRXA (io), 13 SSRXB (io), 14 V12CORE (power), 15 PA2/D7 (io), 16 PA1/D6 (io), 17 PA0/D5 (io), 18 PB21/D4 (io), 19 PB20/D3 (io), 20 PB19/D2 (io), 21 PB18/D1 (io), 22 PB14/SDCK/MISO1 (io), 23 PB16/CMD (io), 24 PB17/D0 (io), 25 PB5/RXD0/PB6/TXD0 (io), 26 VDDIO (power), 27 PB11/SCS1 (io), 28 PB12/SCK1 (io)
2 alternate drawings of the same symbol

## CH337G
designator U?
USB to 10Mbps Ethernet
footprint SOP14
pins: 1 ERP (io), 2 LED (out), 3 GND (power), 4 RES, 5 UD- (io), 6 UD+ (io), 7 X2 (out), 8 X1 (in), 9 V3 (power), 10 VCC5 (power), 11 ETP (io), 12 ETN (io), 13 GND (power), 14 ERN (io)

## CH340B
designator U?
USB to TTL Serial / UART, Integrated clock
footprint SOP16
pins: 1 GND (power), 2 TXD (out), 3 RXD (in), 4 V3 (power), 5 UD+ (io), 6 UD- (io), 7 RST# (in), 8 NC., 9 CTS# (in), 10 DSR# (in), 11 RI# (in), 12 DCD# (in), 13 DTR# (out), 14 RTS# (out), 15 TNOW (out), 16 VCC (power)

## CH340C
designator U?
USB to TTL Serial / UART
footprint SOP16
pins: 1 GND (power), 2 TXD (out), 3 RXD (in), 4 V3 (power), 5 UD+ (io), 6 UD- (io), 7 NC., 8 OUT# (out), 9 CTS# (in), 10 DSR# (in), 11 RI# (in), 12 DCD# (in), 13 DTR# (out), 14 RTS# (out), 15 R232 (in), 16 VCC (power)

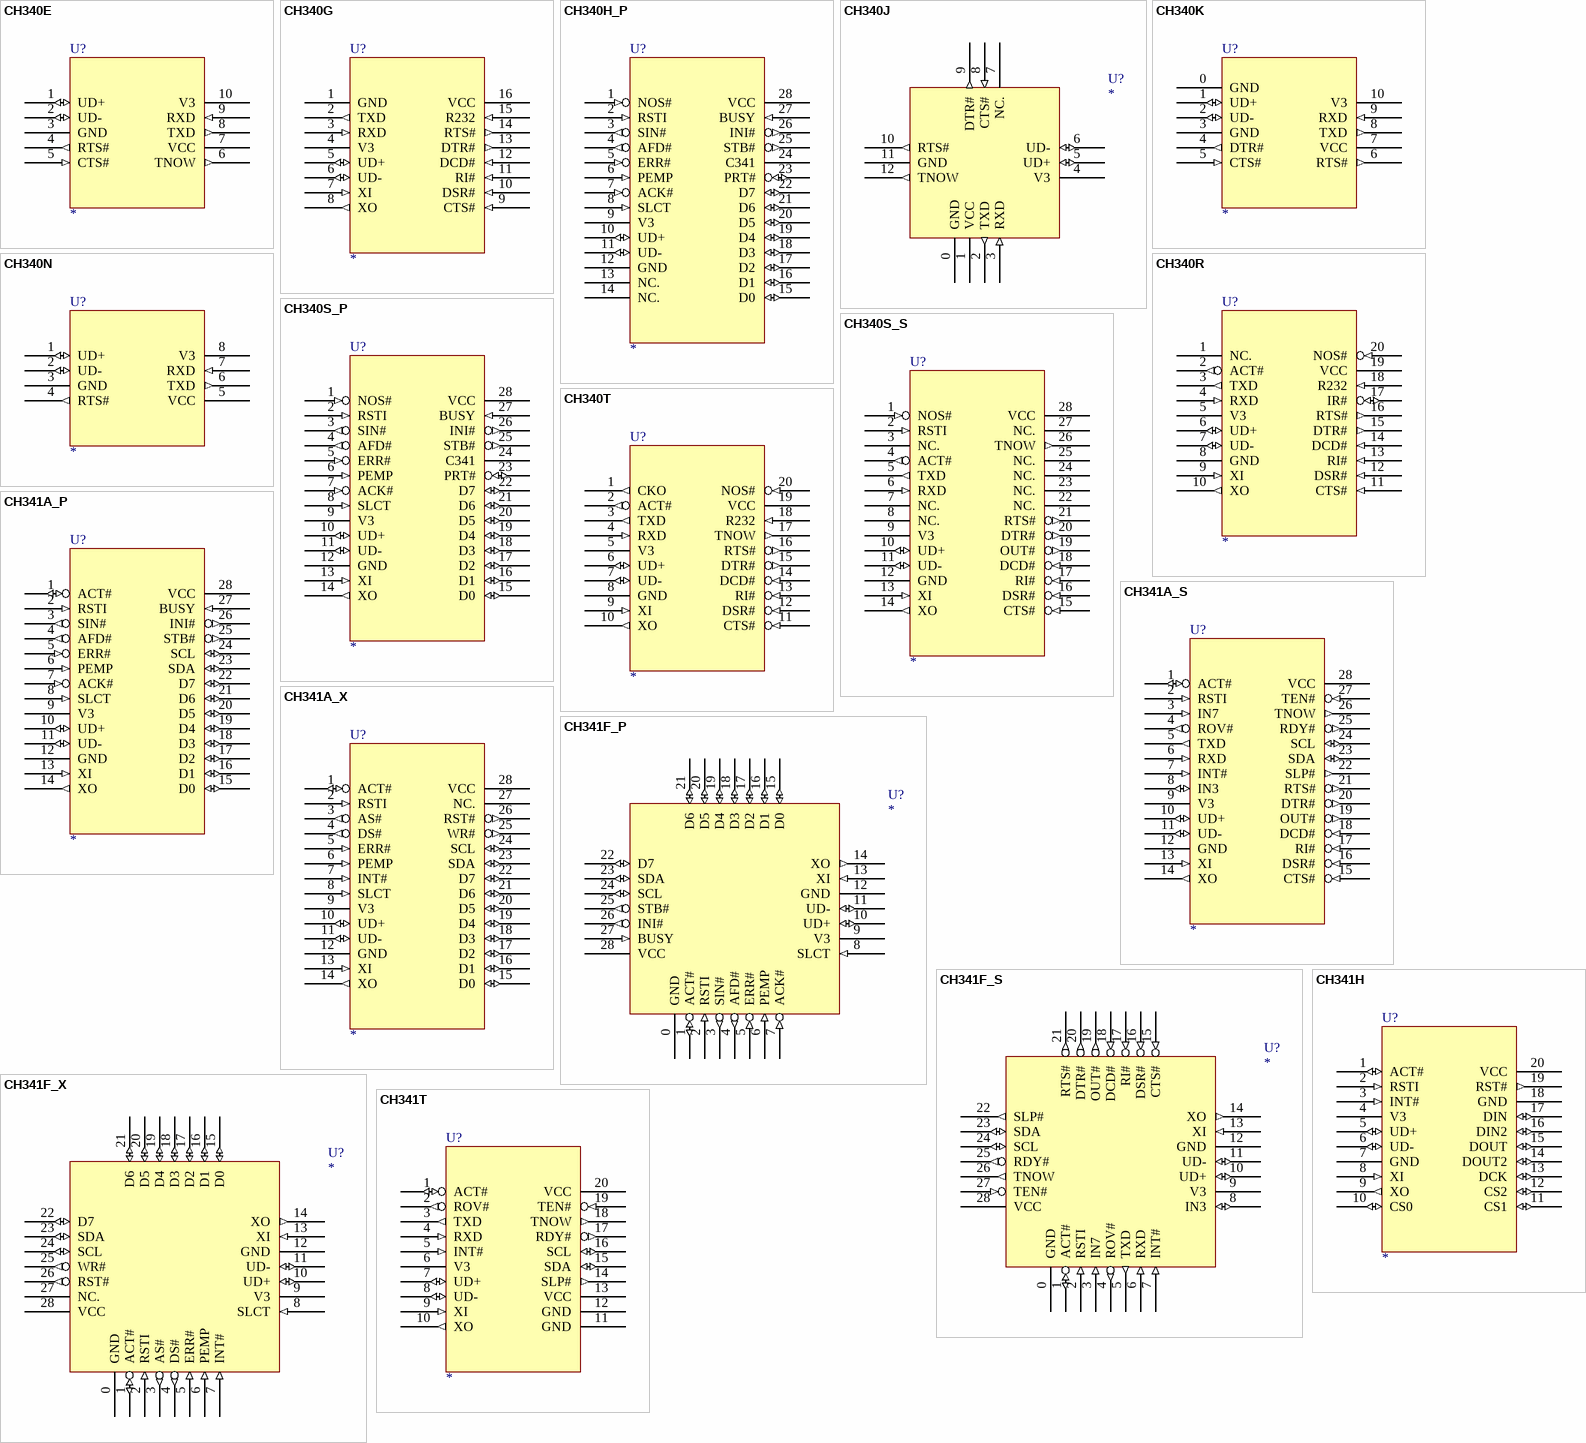
[diagram p8: symbols CH340E to CH341T]

## CH340E
designator U?
USB to TTL Serial / UART
footprint MSOP10
pins: 1 UD+ (io), 2 UD- (io), 3 GND (power), 4 RTS# (out), 5 CTS# (in), 6 TNOW (out), 7 VCC (power), 8 TXD (out), 9 RXD (in), 10 V3 (power)

## CH340G
designator U?
USB to TTL Serial / UART
footprint SOP16
pins: 1 GND (power), 2 TXD (out), 3 RXD (in), 4 V3 (power), 5 UD+ (io), 6 UD- (io), 7 XI (in), 8 XO (out), 9 CTS# (in), 10 DSR# (in), 11 RI# (in), 12 DCD# (in), 13 DTR# (out), 14 RTS# (out), 15 R232 (in), 16 VCC (power)

## CH340H_P
designator U?
USB to Print Port / Parallel
footprint SOP28
footprint DIP28
pins: 1 NOS# (in), 2 RSTI (in), 3 SIN# (out), 4 AFD# (out), 5 ERR# (in), 6 PEMP (in), 7 ACK# (in), 8 SLCT (in), 9 V3 (power), 10 UD+ (io), 11 UD- (io), 12 GND (power), 13 NC., 14 NC., 15 D0 (io), 16 D1 (io), 17 D2 (io), 18 D3 (io), 19 D4 (io), 20 D5 (io), 21 D6 (io), 22 D7 (io), 23 PRT# (io), 24 C341, 25 STB# (out), 26 INI# (out), 27 BUSY (in), 28 VCC (power)

## CH340J
designator U?
USB to TTL Serial / UART
footprint QFN12_2X2
pins: 0 GND (power), 1 VCC (power), 2 TXD (out), 3 RXD (in), 4 V3 (power), 5 UD+ (io), 6 UD- (io), 7 NC., 8 CTS# (in), 9 DTR# (out), 10 RTS# (out), 11 GND (power), 12 TNOW (out)

## CH340K
designator U?
USB to TTL Serial / UART for dual power
footprint ESSOP10
pins: 0 GND (power), 1 UD+ (io), 2 UD- (io), 3 GND (power), 4 DTR# (out), 5 CTS# (in), 6 RTS# (out), 7 VCC (power), 8 TXD (out), 9 RXD (in), 10 V3 (power)

## CH340N
designator U?
USB to TTL Serial / UART
footprint SOP8
pins: 1 UD+ (io), 2 UD- (io), 3 GND (power), 4 RTS# (out), 5 VCC (power), 6 TXD (out), 7 RXD (in), 8 V3 (power)